# Altium integrated library CDE_Library.IntLib: 6171 symbols (part 17 of 25)
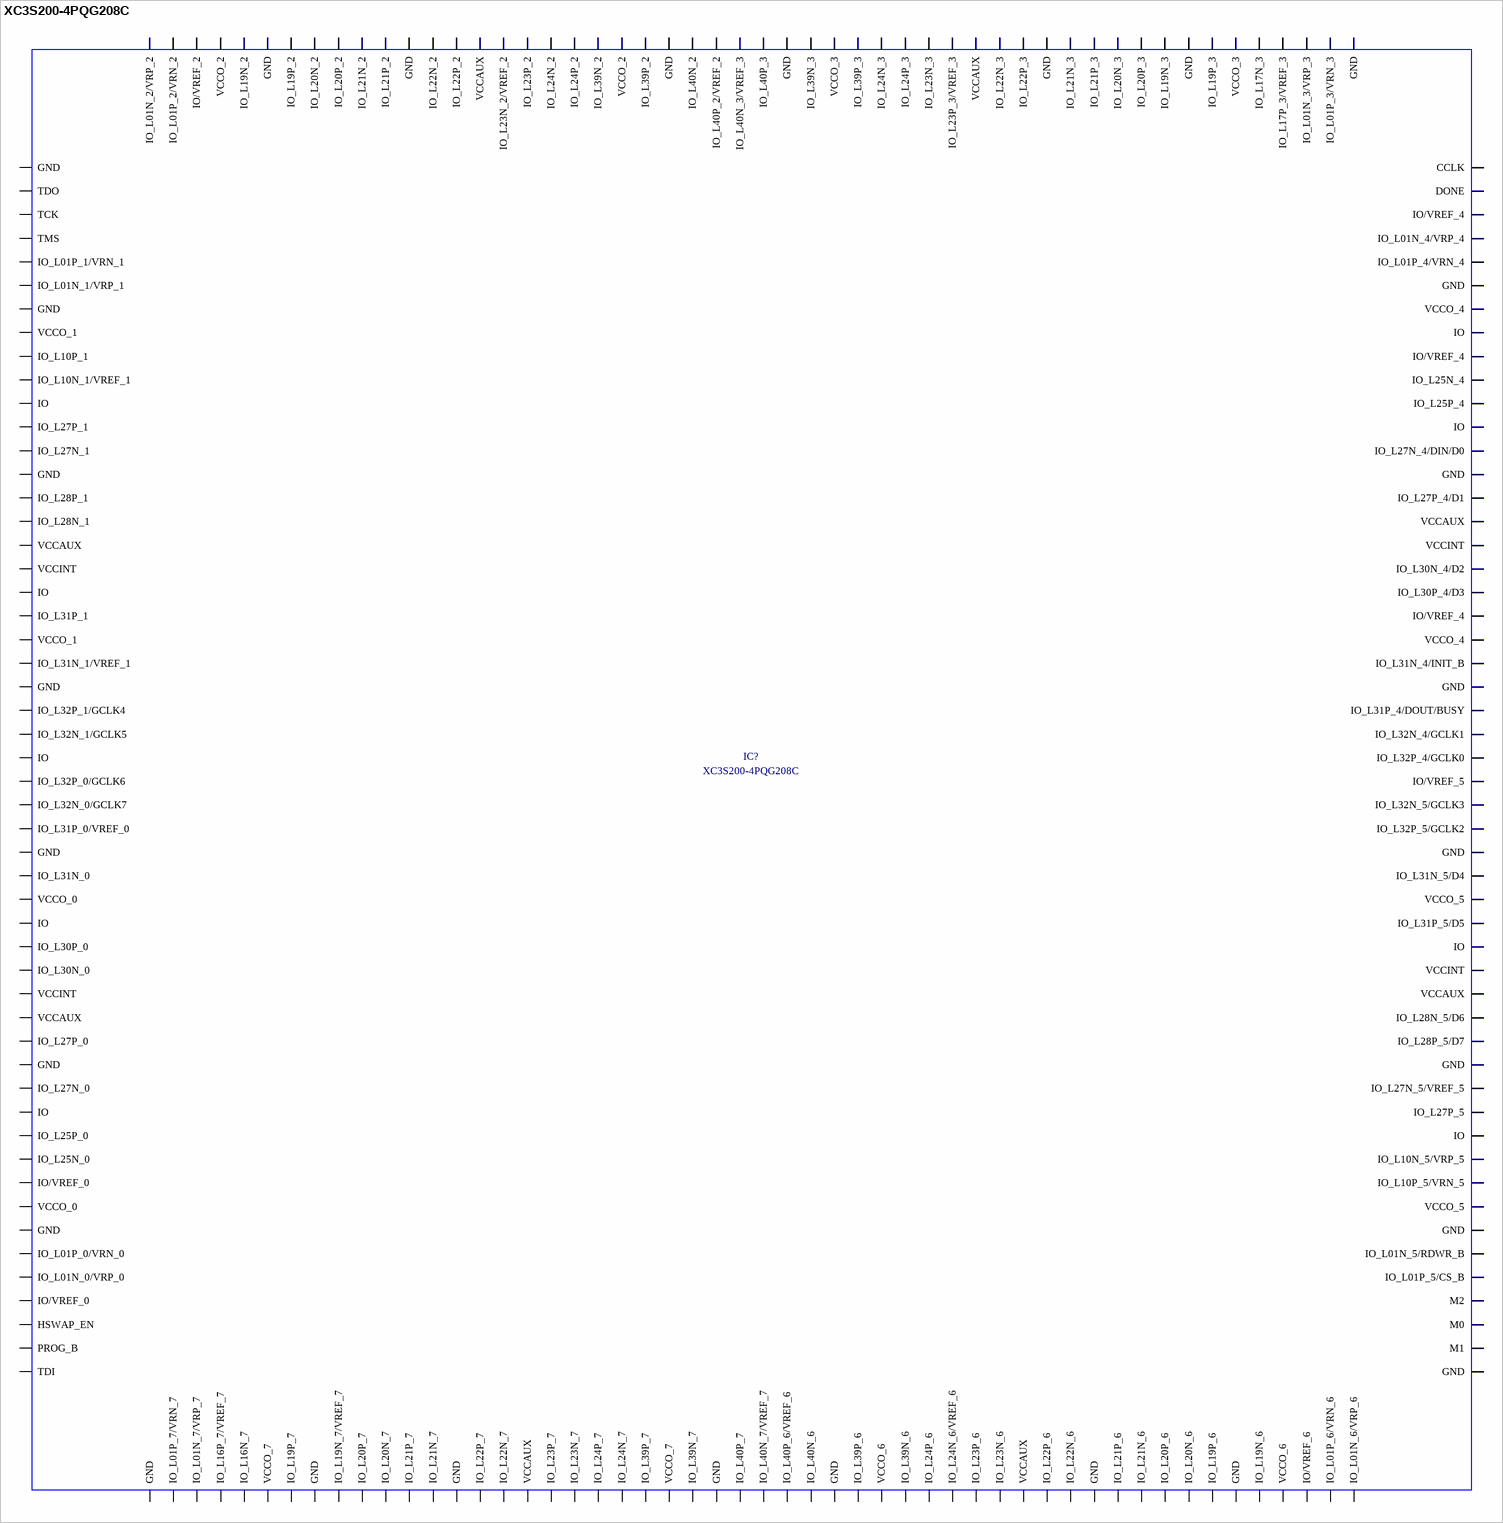
[diagram p273: symbol XC3S200-4PQG208C]

## XC3S200-4PQG208C
designator IC?
FPGA, Xilinx Spartan 3
footprint smd PQFP/208
pins: 1 GND, 2 IO_L01P_7/VRN_7, 3 IO_L01N_7/VRP_7, 4 IO_L16P_7/VREF_7, 5 IO_L16N_7, 6 VCCO_7, 7 IO_L19P_7, 8 GND, 9 IO_L19N_7/VREF_7, 10 IO_L20P_7, 11 IO_L20N_7, 12 IO_L21P_7, 13 IO_L21N_7, 14 GND, 15 IO_L22P_7, 16 IO_L22N_7, 17 VCCAUX, 18 IO_L23P_7, 19 IO_L23N_7, 20 IO_L24P_7, 21 IO_L24N_7, 22 IO_L39P_7, 23 VCCO_7, 24 IO_L39N_7, 25 GND, 26 IO_L40P_7, 27 IO_L40N_7/VREF_7, 28 IO_L40P_6/VREF_6, 29 IO_L40N_6, 30 GND, 31 IO_L39P_6, 32 VCCO_6, 33 IO_L39N_6, 34 IO_L24P_6, 35 IO_L24N_6/VREF_6, 36 IO_L23P_6, 37 IO_L23N_6, 38 VCCAUX, 39 IO_L22P_6, 40 IO_L22N_6, 41 GND, 42 IO_L21P_6, 43 IO_L21N_6, 44 IO_L20P_6, 45 IO_L20N_6, 46 IO_L19P_6, 47 GND, 48 IO_L19N_6, 49 VCCO_6, 50 IO/VREF_6, 51 IO_L01P_6/VRN_6, 52 IO_L01N_6/VRP_6, 53 GND, 54 M1, 55 M0, 56 M2, 57 IO_L01P_5/CS_B, 58 IO_L01N_5/RDWR_B, 59 GND, 60 VCCO_5, 61 IO_L10P_5/VRN_5, 62 IO_L10N_5/VRP_5, 63 IO, 64 IO_L27P_5, 65 IO_L27N_5/VREF_5, 66 GND, 67 IO_L28P_5/D7, 68 IO_L28N_5/D6, 69 VCCAUX, 70 VCCINT, 71 IO, 72 IO_L31P_5/D5, 73 VCCO_5, 74 IO_L31N_5/D4, 75 GND, 76 IO_L32P_5/GCLK2, 77 IO_L32N_5/GCLK3, 78 IO/VREF_5, 79 IO_L32P_4/GCLK0, 80 IO_L32N_4/GCLK1, 81 IO_L31P_4/DOUT/BUSY, 82 GND, 83 IO_L31N_4/INIT_B, 84 VCCO_4, 85 IO/VREF_4, 86 IO_L30P_4/D3, 87 IO_L30N_4/D2, 88 VCCINT, 89 VCCAUX, 90 IO_L27P_4/D1, 91 GND, 92 IO_L27N_4/DIN/D0, 93 IO, 94 IO_L25P_4, 95 IO_L25N_4, 96 IO/VREF_4, 97 IO, 98 VCCO_4, 99 GND, 100 IO_L01P_4/VRN_4, 101 IO_L01N_4/VRP_4, 102 IO/VREF_4, 103 DONE, 104 CCLK, 105 GND, 106 IO_L01P_3/VRN_3, 107 IO_L01N_3/VRP_3, 108 IO_L17P_3/VREF_3, 109 IO_L17N_3, 110 VCCO_3, 111 IO_L19P_3, 112 GND, 113 IO_L19N_3, 114 IO_L20P_3, 115 IO_L20N_3, 116 IO_L21P_3, 117 IO_L21N_3, 118 GND, 119 IO_L22P_3, 120 IO_L22N_3, 121 VCCAUX, 122 IO_L23P_3/VREF_3, 123 IO_L23N_3, 124 IO_L24P_3, 125 IO_L24N_3, 126 IO_L39P_3, 127 VCCO_3, 128 IO_L39N_3, 129 GND, 130 IO_L40P_3, 131 IO_L40N_3/VREF_3, 132 IO_L40P_2/VREF_2, 133 IO_L40N_2, 134 GND, 135 IO_L39P_2, 136 VCCO_2, 137 IO_L39N_2, 138 IO_L24P_2, 139 IO_L24N_2, 140 IO_L23P_2, 141 IO_L23N_2/VREF_2, 142 VCCAUX, 143 IO_L22P_2, 144 IO_L22N_2, 145 GND, 146 IO_L21P_2, 147 IO_L21N_2, 148 IO_L20P_2, 149 IO_L20N_2, 150 IO_L19P_2, 151 GND, 152 IO_L19N_2, 153 VCCO_2, 154 IO/VREF_2, 155 IO_L01P_2/VRN_2, 156 IO_L01N_2/VRP_2, 157 GND, 158 TDO, 159 TCK, 160 TMS, 161 IO_L01P_1/VRN_1, 162 IO_L01N_1/VRP_1, 163 GND, 164 VCCO_1, 165 IO_L10P_1, 166 IO_L10N_1/VREF_1, 167 IO, 168 IO_L27P_1, 169 IO_L27N_1, 170 GND, 171 IO_L28P_1, 172 IO_L28N_1, 173 VCCAUX, 174 VCCINT, 175 IO, 176 IO_L31P_1, 177 VCCO_1, 178 IO_L31N_1/VREF_1, 179 GND, 180 IO_L32P_1/GCLK4, 181 IO_L32N_1/GCLK5, 182 IO, 183 IO_L32P_0/GCLK6, 184 IO_L32N_0/GCLK7, 185 IO_L31P_0/VREF_0, 186 GND, 187 IO_L31N_0, 188 VCCO_0, 189 IO, 190 IO_L30P_0, 191 IO_L30N_0, 192 VCCINT, 193 VCCAUX, 194 IO_L27P_0, 195 GND, 196 IO_L27N_0, 197 IO, 198 IO_L25P_0, 199 IO_L25N_0, 200 IO/VREF_0, 201 VCCO_0, 202 GND, 203 IO_L01P_0/VRN_0, 204 IO_L01N_0/VRP_0, 205 IO/VREF_0, 206 HSWAP_EN, 207 PROG_B, 208 TDI

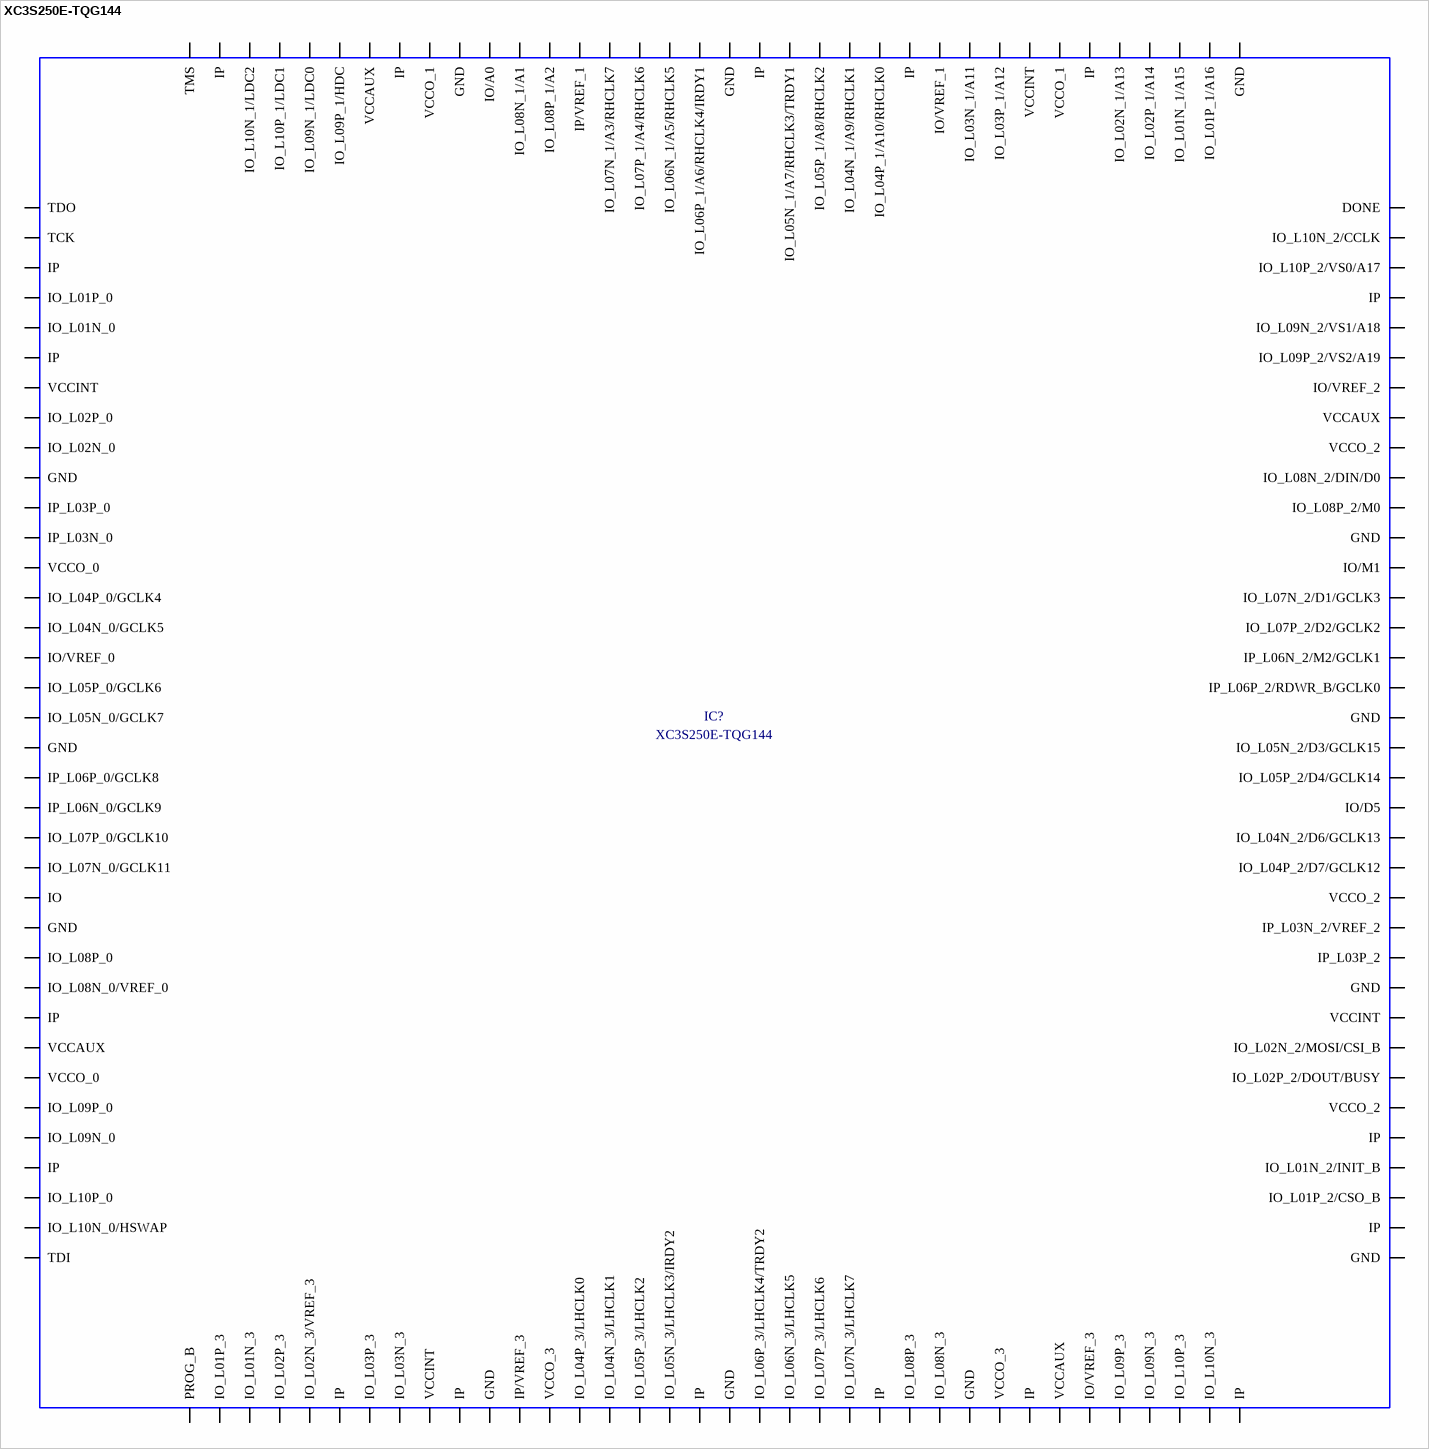
[diagram p175: symbol XC3S250E-TQG144]

## XC3S250E-TQG144
designator IC?
Xilinx FPGA
footprint smd TQFP/144
pins: 1 PROG_B, 2 IO_L01P_3, 3 IO_L01N_3, 4 IO_L02P_3, 5 IO_L02N_3/VREF_3, 6 IP, 7 IO_L03P_3, 8 IO_L03N_3, 9 VCCINT, 10 IP, 11 GND, 12 IP/VREF_3, 13 VCCO_3, 14 IO_L04P_3/LHCLK0, 15 IO_L04N_3/LHCLK1, 16 IO_L05P_3/LHCLK2, 17 IO_L05N_3/LHCLK3/IRDY2, 18 IP, 19 GND, 20 IO_L06P_3/LHCLK4/TRDY2, 21 IO_L06N_3/LHCLK5, 22 IO_L07P_3/LHCLK6, 23 IO_L07N_3/LHCLK7, 24 IP, 25 IO_L08P_3, 26 IO_L08N_3, 27 GND, 28 VCCO_3, 29 IP, 30 VCCAUX, 31 IO/VREF_3, 32 IO_L09P_3, 33 IO_L09N_3, 34 IO_L10P_3, 35 IO_L10N_3, 36 IP, 37 GND, 38 IP, 39 IO_L01P_2/CSO_B, 40 IO_L01N_2/INIT_B, 41 IP, 42 VCCO_2, 43 IO_L02P_2/DOUT/BUSY, 44 IO_L02N_2/MOSI/CSI_B, 45 VCCINT, 46 GND, 47 IP_L03P_2, 48 IP_L03N_2/VREF_2, 49 VCCO_2, 50 IO_L04P_2/D7/GCLK12, 51 IO_L04N_2/D6/GCLK13, 52 IO/D5, 53 IO_L05P_2/D4/GCLK14, 54 IO_L05N_2/D3/GCLK15, 55 GND, 56 IP_L06P_2/RDWR_B/GCLK0, 57 IP_L06N_2/M2/GCLK1, 58 IO_L07P_2/D2/GCLK2, 59 IO_L07N_2/D1/GCLK3, 60 IO/M1, 61 GND, 62 IO_L08P_2/M0, 63 IO_L08N_2/DIN/D0, 64 VCCO_2, 65 VCCAUX, 66 IO/VREF_2, 67 IO_L09P_2/VS2/A19, 68 IO_L09N_2/VS1/A18, 69 IP, 70 IO_L10P_2/VS0/A17, 71 IO_L10N_2/CCLK, 72 DONE, 73 GND, 74 IO_L01P_1/A16, 75 IO_L01N_1/A15, 76 IO_L02P_1/A14, 77 IO_L02N_1/A13, 78 IP, 79 VCCO_1, 80 VCCINT, 81 IO_L03P_1/A12, 82 IO_L03N_1/A11, 83 IO/VREF_1, 84 IP, 85 IO_L04P_1/A10/RHCLK0, 86 IO_L04N_1/A9/RHCLK1, 87 IO_L05P_1/A8/RHCLK2, 88 IO_L05N_1/A7/RHCLK3/TRDY1, 89 IP, 90 GND, 91 IO_L06P_1/A6/RHCLK4/IRDY1, 92 IO_L06N_1/A5/RHCLK5, 93 IO_L07P_1/A4/RHCLK6, 94 IO_L07N_1/A3/RHCLK7, 95 IP/VREF_1, 96 IO_L08P_1/A2, 97 IO_L08N_1/A1, 98 IO/A0, 99 GND, 100 VCCO_1, 101 IP, 102 VCCAUX, 103 IO_L09P_1/HDC, 104 IO_L09N_1/LDC0, 105 IO_L10P_1/LDC1, 106 IO_L10N_1/LDC2, 107 IP, 108 TMS, 109 TDO, 110 TCK, 111 IP, 112 IO_L01P_0, 113 IO_L01N_0, 114 IP, 115 VCCINT, 116 IO_L02P_0, 117 IO_L02N_0, 118 GND, 119 IP_L03P_0, 120 IP_L03N_0, 121 VCCO_0, 122 IO_L04P_0/GCLK4, 123 IO_L04N_0/GCLK5, 124 IO/VREF_0, 125 IO_L05P_0/GCLK6, 126 IO_L05N_0/GCLK7, 127 GND, 128 IP_L06P_0/GCLK8, 129 IP_L06N_0/GCLK9, 130 IO_L07P_0/GCLK10, 131 IO_L07N_0/GCLK11, 132 IO, 133 GND, 134 IO_L08P_0, 135 IO_L08N_0/VREF_0, 136 IP, 137 VCCAUX, 138 VCCO_0, 139 IO_L09P_0, 140 IO_L09N_0, 141 IP, 142 IO_L10P_0, 143 IO_L10N_0/HSWAP, 144 TDI

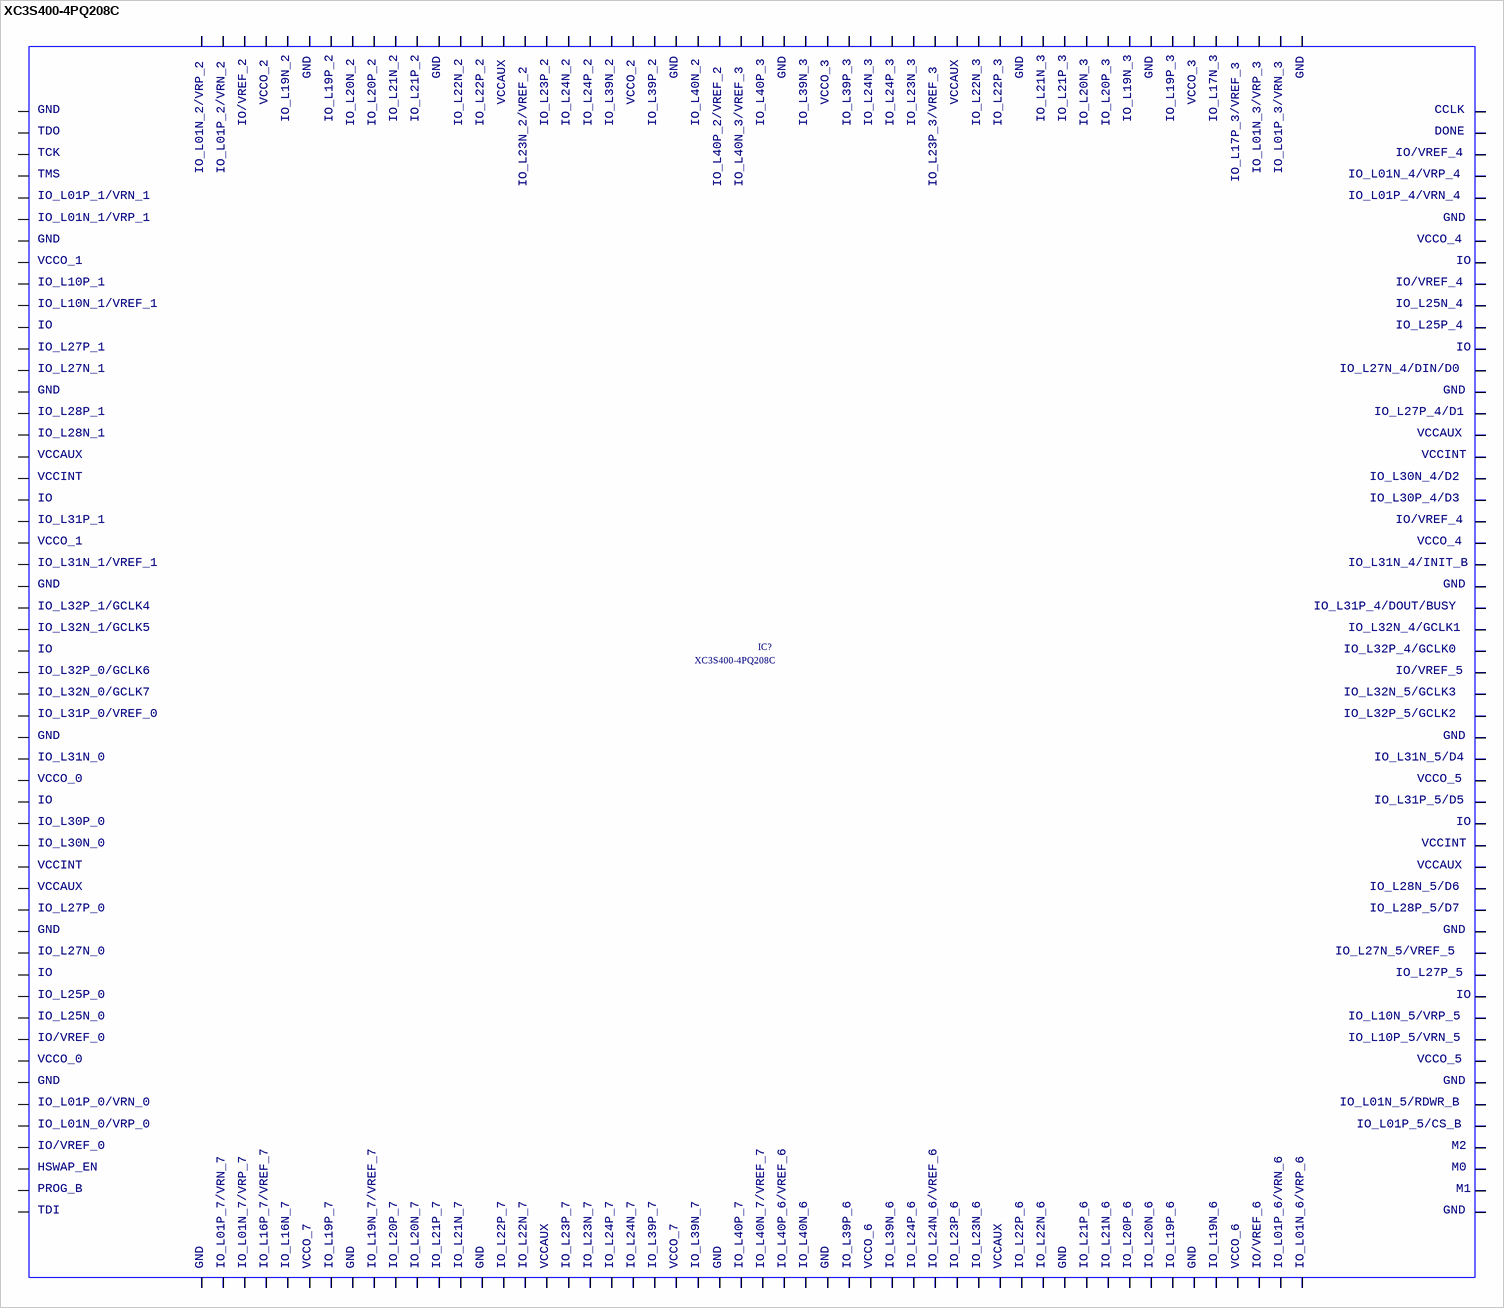
[diagram p176: symbol XC3S400-4PQ208C]

## XC3S400-4PQ208C
designator IC?
FPGA, Xilinx
footprint smd PQFP/208
pins: 1, 2, 3, 4, 5, 6, 7, 8, 9, 10, 11, 12, 13, 14, 15, 16, 17, 18, 19, 20, 21, 22, 23, 24, 25, 26, 27, 28, 29, 30, 31, 32, 33, 34, 35, 36, 37, 38, 39, 40, 41, 42, 43, 44, 45, 46, 47, 48, 49, 50, 51, 52, 53, 54, 55, 56, 57, 58, 59, 60, 61, 62, 63, 64, 65, 66, 67, 68, 69, 70, 71, 72, 73, 74, 75, 76, 77, 78, 79, 80, 81, 82, 83, 84, 85, 86, 87, 88, 89, 90, 91, 92, 93, 94, 95, 96, 97, 98, 99, 100, 101, 102, 103, 104, 105, 106, 107, 108, 109, 110, 111, 112, 113, 114, 115, 116, 117, 118, 119, 120, 121, 122, 123, 124, 125, 126, 127, 128, 129, 130, 131, 132, 133, 134, 135, 136, 137, 138, 139, 140, 141, 142, 143, 144, 145, 146, 147, 148, 149, 150, 151, 152, 153, 154, 155, 156, 157, 158, 159, 160, 161, 162, 163, 164, 165, 166, 167, 168, 169, 170, 171, 172, 173, 174, 175, 176, 177, 178, 179, 180, 181, 182, 183, 184, 185, 186, 187, 188, 189, 190, 191, 192, 193, 194, 195, 196, 197, 198, 199, 200, 201, 202, 203, 204, 205, 206, 207, 208
text: GND; VCCO_2; VCCAUX; VCCO_3; CCLK; IO_L19N_2; IO_L19P_2; IO_L21N_2; IO_L21P_2; IO_L21N_3; IO_L21P_3; IO_L19N_3; IO_L19P_3; IO_L17N_3; IO/VREF_2; IO_L20N_2; IO_L20P_2; IO_L22N_2; IO_L22P_2; IO_L23P_2; IO_L24N_2; IO_L24P_2; IO_L39N_2; IO_L39P_2; IO_L40N_2; IO_L40P_3; IO_L39N_3; IO_L39P_3; IO_L24N_3; IO_L24P_3; IO_L23N_3; IO_L22N_3; IO_L22P_3; IO_L20N_3; IO_L20P_3; TDO; DONE; TCK; IO/VREF_4; IO_L01N_2/VRP_2; IO_L01P_2/VRN_2; IO_L01N_3/VRP_3; IO_L01P_3/VRN_3; TMS; IO_L17P_3/VREF_3; IO_L01N_4/VRP_4; IO_L23N_2/VREF_2; IO_L40P_2/VREF_2; IO_L40N_3/VREF_3; IO_L23P_3/VREF_3; IO_L01P_1/VRN_1; IO_L01P_4/VRN_4; IO_L01N_1/VRP_1; VCCO_4; VCCO_1; IO; IO_L10P_1; IO_L10N_1/VREF_1; IO_L25N_4; IO_L25P_4; IO_L27P_1; IO_L27N_1; IO_L27N_4/DIN/D0; IO_L28P_1; IO_L27P_4/D1; IO_L28N_1; VCCINT; IO_L30N_4/D2; IO_L30P_4/D3; IO_L31P_1; IO_L31N_1/VREF_1; IO_L31N_4/INIT_B; IO_L32P_1/GCLK4; IO_L31P_4/DOUT/BUSY; IO_L32N_1/GCLK5; IO_L32N_4/GCLK1; IO_L32P_4/GCLK0; IO_L32P_0/GCLK6; IO/VREF_5; IO_L32N_0/GCLK7; IO_L32N_5/GCLK3; IO_L31P_0/VREF_0; IO_L32P_5/GCLK2; IO_L31N_0; IO_L31N_5/D4; VCCO_0; VCCO_5; IO_L31P_5/D5; IO_L30P_0; IO_L30N_0; IO_L28N_5/D6; IO_L27P_0; IO_L28P_5/D7; IO_L27N_0; IO_L27N_5/VREF_5; IO_L27P_5; IO_L25P_0; IO_L25N_0; IO_L10N_5/VRP_5; IO/VREF_0; IO_L10P_5/VRN_5; IO_L01P_0/VRN_0; IO_L01N_5/RDWR_B; IO_L01N_0/VRP_0; IO_L01P_5/CS_B; M2; HSWAP_EN; M0; PROG_B; M1; TDI; IO_L01P_7/VRN_7; IO_L01N_7/VRP_7; IO_L16P_7/VREF_7; IO_L16N_7; VCCO_7; IO_L19P_7; IO_L19N_7/VREF_7; IO_L20P_7; IO_L20N_7; IO_L21P_7; IO_L21N_7; IO_L22P_7; IO_L22N_7; IO_L23P_7; IO_L23N_7; IO_L24P_7; IO_L24N_7; IO_L39P_7; IO_L39N_7; IO_L40P_7; IO_L40N_7/VREF_7; IO_L40P_6/VREF_6; IO_L40N_6; IO_L39P_6; VCCO_6; IO_L39N_6; IO_L24P_6; IO_L24N_6/VREF_6; IO_L23P_6; IO_L23N_6; IO_L22P_6; IO_L22N_6; IO_L21P_6; IO_L21N_6; IO_L20P_6; IO_L20N_6; IO_L19P_6; IO_L19N_6; IO/VREF_6; IO_L01P_6/VRN_6; IO_L01N_6/VRP_6

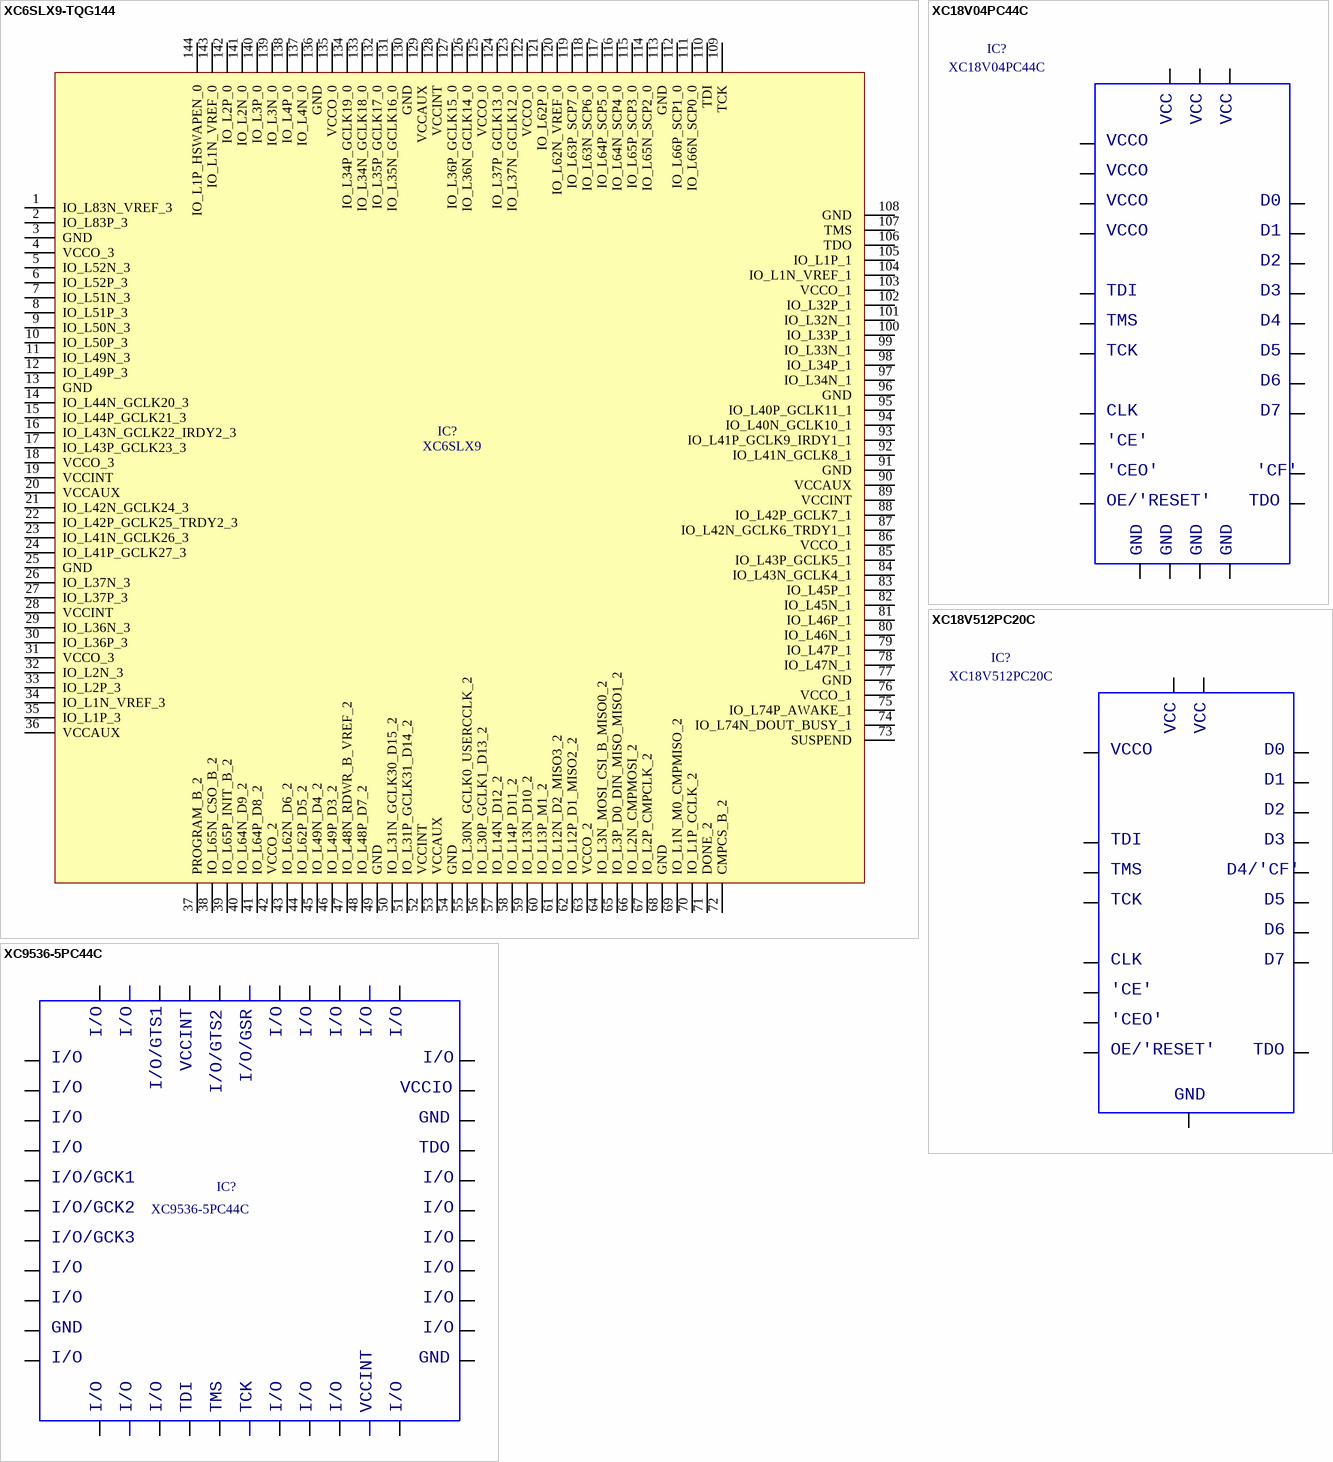
[diagram p177: symbols XC6SLX9-TQG144 to XC9536-5PC44C]

## XC6SLX9-TQG144
designator IC?, comment XC6SLX9
Spartan 6 FPGA
footprint smd TQ144_L (Thin QFP, 144-Leads, Body 20x20mm, Pitch 0.5mm, IPC High Density)
pins: 1 IO_L83N_VREF_3 , 2 IO_L83P_3 , 3 GND , 4 VCCO_3 , 5 IO_L52N_3 , 6 IO_L52P_3 , 7 IO_L51N_3 , 8 IO_L51P_3 , 9 IO_L50N_3 , 10 IO_L50P_3 , 11 IO_L49N_3 , 12 IO_L49P_3 , 13 GND , 14 IO_L44N_GCLK20_3 , 15 IO_L44P_GCLK21_3 , 16 IO_L43N_GCLK22_IRDY2_3 , 17 IO_L43P_GCLK23_3 , 18 VCCO_3 , 19 VCCINT , 20 VCCAUX , 21 IO_L42N_GCLK24_3 , 22 IO_L42P_GCLK25_TRDY2_3 , 23 IO_L41N_GCLK26_3 , 24 IO_L41P_GCLK27_3 , 25 GND , 26 IO_L37N_3 , 27 IO_L37P_3 , 28 VCCINT , 29 IO_L36N_3 , 30 IO_L36P_3 , 31 VCCO_3 , 32 IO_L2N_3 , 33 IO_L2P_3 , 34 IO_L1N_VREF_3 , 35 IO_L1P_3 , 36 VCCAUX , 37 PROGRAM_B_2 , 38 IO_L65N_CSO_B_2 , 39 IO_L65P_INIT_B_2 , 40 IO_L64N_D9_2 , 41 IO_L64P_D8_2 , 42 VCCO_2 , 43 IO_L62N_D6_2 , 44 IO_L62P_D5_2 , 45 IO_L49N_D4_2 , 46 IO_L49P_D3_2 , 47 IO_L48N_RDWR_B_VREF_2 , 48 IO_L48P_D7_2 , 49 GND , 50 IO_L31N_GCLK30_D15_2 , 51 IO_L31P_GCLK31_D14_2 , 52 VCCINT , 53 VCCAUX , 54 GND , 55 IO_L30N_GCLK0_USERCCLK_2 , 56 IO_L30P_GCLK1_D13_2 , 57 IO_L14N_D12_2 , 58 IO_L14P_D11_2 , 59 IO_L13N_D10_2 , 60 IO_L13P_M1_2 , 61 IO_L12N_D2_MISO3_2 , 62 IO_L12P_D1_MISO2_2 , 63 VCCO_2 , 64 IO_L3N_MOSI_CSI_B_MISO0_2 , 65 IO_L3P_D0_DIN_MISO_MISO1_2 , 66 IO_L2N_CMPMOSI_2 , 67 IO_L2P_CMPCLK_2 , 68 GND , 69 IO_L1N_M0_CMPMISO_2 , 70 IO_L1P_CCLK_2 , 71 DONE_2 , 72 CMPCS_B_2 , 73 SUSPEND , 74 IO_L74N_DOUT_BUSY_1 , 75 IO_L74P_AWAKE_1 , 76 VCCO_1 , 77 GND , 78 IO_L47N_1 , 79 IO_L47P_1 , 80 IO_L46N_1 , 81 IO_L46P_1 , 82 IO_L45N_1 , 83 IO_L45P_1 , 84 IO_L43N_GCLK4_1 , 85 IO_L43P_GCLK5_1 , 86 VCCO_1 , 87 IO_L42N_GCLK6_TRDY1_1 , 88 IO_L42P_GCLK7_1 , 89 VCCINT , 90 VCCAUX , 91 GND , 92 IO_L41N_GCLK8_1 , 93 IO_L41P_GCLK9_IRDY1_1 , 94 IO_L40N_GCLK10_1 , 95 IO_L40P_GCLK11_1 , 96 GND , 97 IO_L34N_1 , 98 IO_L34P_1 , 99 IO_L33N_1 , 100 IO_L33P_1 , 101 IO_L32N_1 , 102 IO_L32P_1 , 103 VCCO_1 , 104 IO_L1N_VREF_1 , 105 IO_L1P_1 , 106 TDO , 107 TMS , 108 GND , 109 TCK , 110 TDI , 111 IO_L66N_SCP0_0 , 112 IO_L66P_SCP1_0 , 113 GND , 114 IO_L65N_SCP2_0 , 115 IO_L65P_SCP3_0 , 116 IO_L64N_SCP4_0 , 117 IO_L64P_SCP5_0 , 118 IO_L63N_SCP6_0 , 119 IO_L63P_SCP7_0 , 120 IO_L62N_VREF_0 , 121 IO_L62P_0 , 122 VCCO_0 , 123 IO_L37N_GCLK12_0 , 124 IO_L37P_GCLK13_0 , 125 VCCO_0 , 126 IO_L36N_GCLK14_0 , 127 IO_L36P_GCLK15_0 , 128 VCCINT , 129 VCCAUX , 130 GND , 131 IO_L35N_GCLK16_0 , 132 IO_L35P_GCLK17_0 , 133 IO_L34N_GCLK18_0 , 134 IO_L34P_GCLK19_0 , 135 VCCO_0 , 136 GND , 137 IO_L4N_0 , 138 IO_L4P_0 , 139 IO_L3N_0 , 140 IO_L3P_0 , 141 IO_L2N_0 , 142 IO_L2P_0 , 143 IO_L1N_VREF_0 , 144 IO_L1P_HSWAPEN_0 

## XC18V04PC44C
designator IC?
PROM, programmeerbare configuratie
footprint icv PLCC/.1/44
pins: 2, 3, 4, 5, 9, 11, 12, 13, 14, 15, 16, 19, 20, 21, 22, 23, 24, 25, 27, 31, 32, 33, 34, 35, 37, 41, 42, 44
text: VCC; VCCO; D0; D1; D2; TDI; D3; TMS; D4; TCK; D5; D6; CLK; D7; 'CE'; 'CEO'; 'CF'; OE/'RESET'; TDO; GND

## XC18V512PC20C
designator IC?
PROM, programmeerbare configuratie
footprint icv PLCC/.1/20
pins: 1, 2, 3, 4, 5, 6, 7, 8, 9, 10, 11, 12, 13, 14, 15, 16, 17, 18, 19, 20
text: VCC; VCCO; D0; D1; D2; TDI; D3; TMS; D4/'CF'; TCK; D5; D6; CLK; D7; 'CE'; 'CEO'; OE/'RESET'; TDO; GND

## XC9536-5PC44C
designator IC?
in-system programmable CPLD; Part Number: XC9536-5PC44C; Component Kind: Standard; Component Type: Standard; Designator: XC9536-5PC44C; Footprint: icv PLCC/.1/44; Library Reference: XC9536-5PC44C; Pin Count: 44
footprint icv PLCC/.1/44
pins: 1, 2, 3, 4, 5, 6, 7, 8, 9, 10, 11, 12, 13, 14, 15, 16, 17, 18, 19, 20, 21, 22, 23, 24, 25, 26, 27, 28, 29, 30, 31, 32, 33, 34, 35, 36, 37, 38, 39, 40, 41, 42, 43, 44
text: I/O; VCCINT; I/O/GSR; I/O/GTS1; I/O/GTS2; VCCIO; GND; TDO; I/O/GCK1; I/O/GCK2; I/O/GCK3; TDI; TMS; TCK

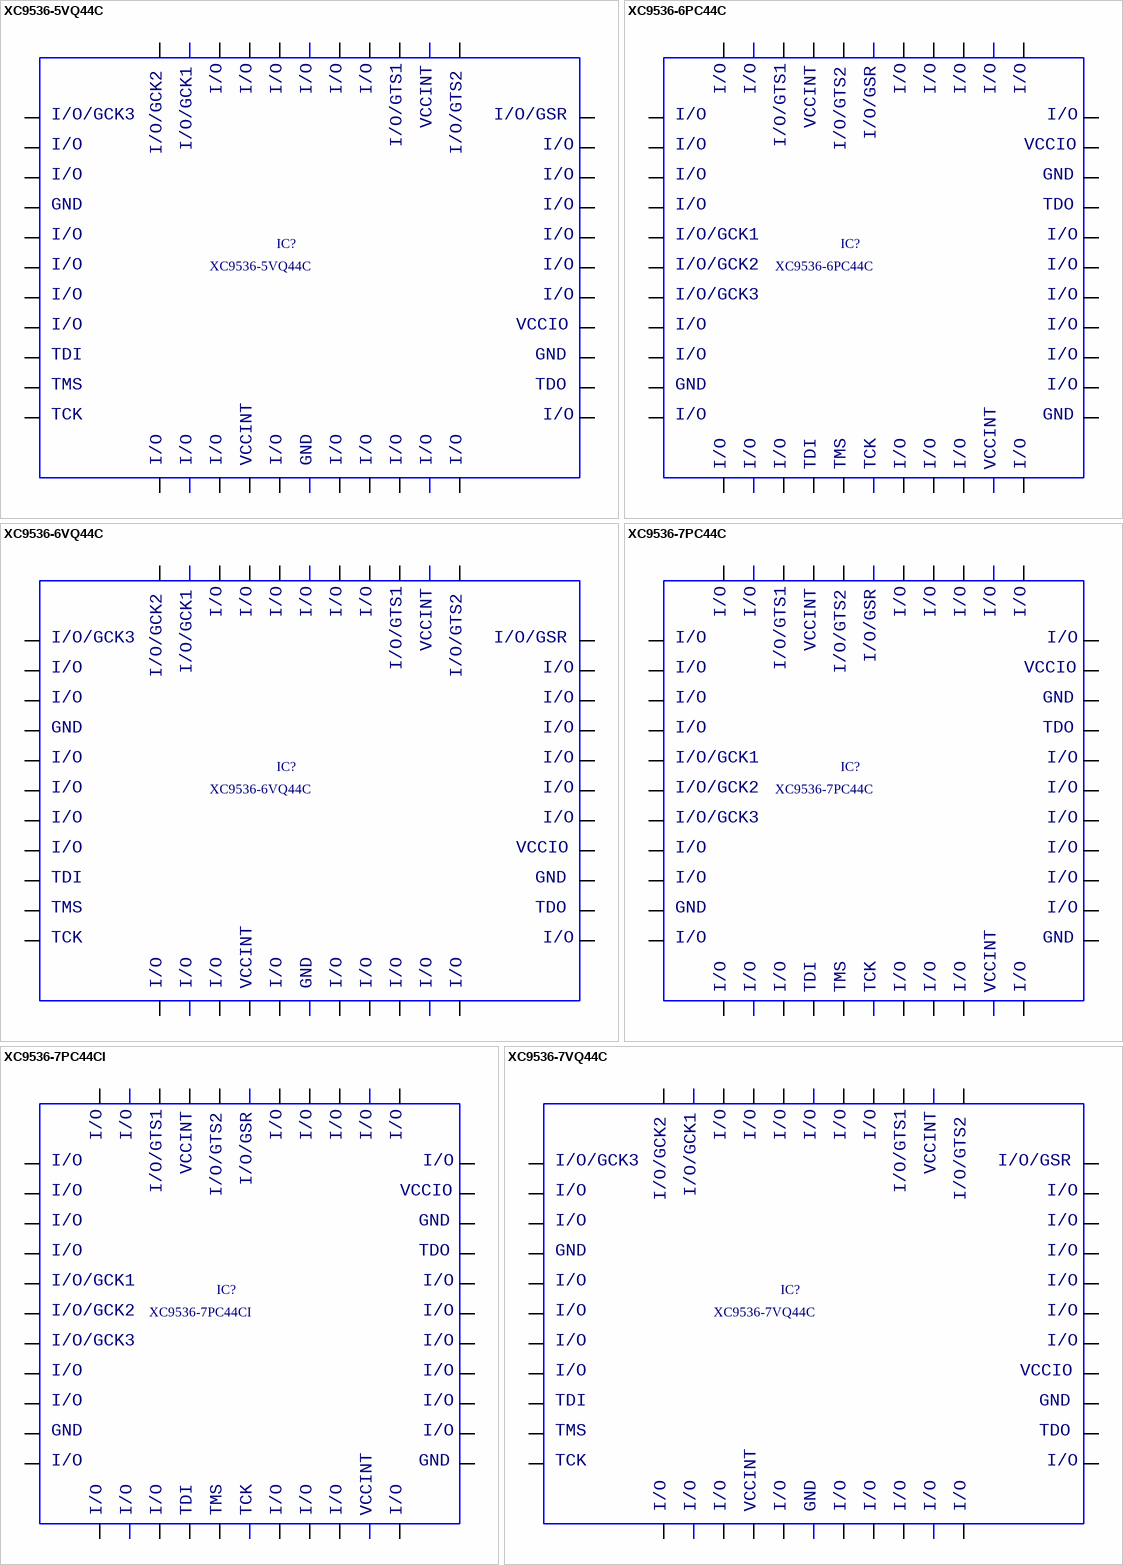
[diagram p178: symbols XC9536-5VQ44C to XC9536-7VQ44C]

## XC9536-5VQ44C
designator IC?
in-system programmable CPLD; Part Number: XC9536-5VQ44C; Component Kind: Standard; Component Type: Standard; Designator: XC9536-5VQ44C; Footprint: smd TQFP/44; Library Reference: XC9536-5VQ44C; Pin Count: 44
footprint smd TQFP/44
pins: 1, 2, 3, 4, 5, 6, 7, 8, 9, 10, 11, 12, 13, 14, 15, 16, 17, 18, 19, 20, 21, 22, 23, 24, 25, 26, 27, 28, 29, 30, 31, 32, 33, 34, 35, 36, 37, 38, 39, 40, 41, 42, 43, 44
text: I/O; I/O/GCK3; I/O/GSR; VCCINT; I/O/GCK1; I/O/GTS1; I/O/GCK2; I/O/GTS2; GND; VCCIO; TDI; TMS; TDO; TCK

## XC9536-6PC44C
designator IC?
in-system programmable CPLD; Part Number: XC9536-6PC44C; Component Kind: Standard; Component Type: Standard; Designator: XC9536-6PC44C; Footprint: icv PLCC/.1/44; Library Reference: XC9536-6PC44C; Pin Count: 44
footprint icv PLCC/.1/44
pins: 1, 2, 3, 4, 5, 6, 7, 8, 9, 10, 11, 12, 13, 14, 15, 16, 17, 18, 19, 20, 21, 22, 23, 24, 25, 26, 27, 28, 29, 30, 31, 32, 33, 34, 35, 36, 37, 38, 39, 40, 41, 42, 43, 44
text: I/O; VCCINT; I/O/GSR; I/O/GTS1; I/O/GTS2; VCCIO; GND; TDO; I/O/GCK1; I/O/GCK2; I/O/GCK3; TDI; TMS; TCK

## XC9536-6VQ44C
designator IC?
in-system programmable CPLD; Part Number: XC9536-6VQ44C; Component Kind: Standard; Component Type: Standard; Designator: XC9536-6VQ44C; Footprint: smd TQFP/44; Library Reference: XC9536-6VQ44C; Pin Count: 44
footprint smd TQFP/44
pins: 1, 2, 3, 4, 5, 6, 7, 8, 9, 10, 11, 12, 13, 14, 15, 16, 17, 18, 19, 20, 21, 22, 23, 24, 25, 26, 27, 28, 29, 30, 31, 32, 33, 34, 35, 36, 37, 38, 39, 40, 41, 42, 43, 44
text: I/O; I/O/GCK3; I/O/GSR; VCCINT; I/O/GCK1; I/O/GTS1; I/O/GCK2; I/O/GTS2; GND; VCCIO; TDI; TMS; TDO; TCK

## XC9536-7PC44C
designator IC?
in-system programmable CPLD; Part Number: XC9536-7PC44C; Component Kind: Standard; Component Type: Standard; Designator: XC9536-7PC44C; Footprint: icv PLCC/.1/44; Library Reference: XC9536-7PC44C; Pin Count: 44
footprint icv PLCC/.1/44
pins: 1, 2, 3, 4, 5, 6, 7, 8, 9, 10, 11, 12, 13, 14, 15, 16, 17, 18, 19, 20, 21, 22, 23, 24, 25, 26, 27, 28, 29, 30, 31, 32, 33, 34, 35, 36, 37, 38, 39, 40, 41, 42, 43, 44
text: I/O; VCCINT; I/O/GSR; I/O/GTS1; I/O/GTS2; VCCIO; GND; TDO; I/O/GCK1; I/O/GCK2; I/O/GCK3; TDI; TMS; TCK

## XC9536-7PC44CI
designator IC?
in-system programmable CPLD; Part Number: XC9536-7PC44CI; Component Kind: Standard; Component Type: Standard; Designator: XC9536-7PC44CI; Footprint: icv PLCC/.1/44; Library Reference: XC9536-7PC44CI; Pin Count: 44
footprint icv PLCC/.1/44
pins: 1, 2, 3, 4, 5, 6, 7, 8, 9, 10, 11, 12, 13, 14, 15, 16, 17, 18, 19, 20, 21, 22, 23, 24, 25, 26, 27, 28, 29, 30, 31, 32, 33, 34, 35, 36, 37, 38, 39, 40, 41, 42, 43, 44
text: I/O; VCCINT; I/O/GSR; I/O/GTS1; I/O/GTS2; VCCIO; GND; TDO; I/O/GCK1; I/O/GCK2; I/O/GCK3; TDI; TMS; TCK

## XC9536-7VQ44C
designator IC?
in-system programmable CPLD; Part Number: XC9536-7VQ44C; Component Kind: Standard; Component Type: Standard; Designator: XC9536-7VQ44C; Footprint: smd TQFP/44; Library Reference: XC9536-7VQ44C; Pin Count: 44
footprint smd TQFP/44
pins: 1, 2, 3, 4, 5, 6, 7, 8, 9, 10, 11, 12, 13, 14, 15, 16, 17, 18, 19, 20, 21, 22, 23, 24, 25, 26, 27, 28, 29, 30, 31, 32, 33, 34, 35, 36, 37, 38, 39, 40, 41, 42, 43, 44
text: I/O; I/O/GCK3; I/O/GSR; VCCINT; I/O/GCK1; I/O/GTS1; I/O/GCK2; I/O/GTS2; GND; VCCIO; TDI; TMS; TDO; TCK

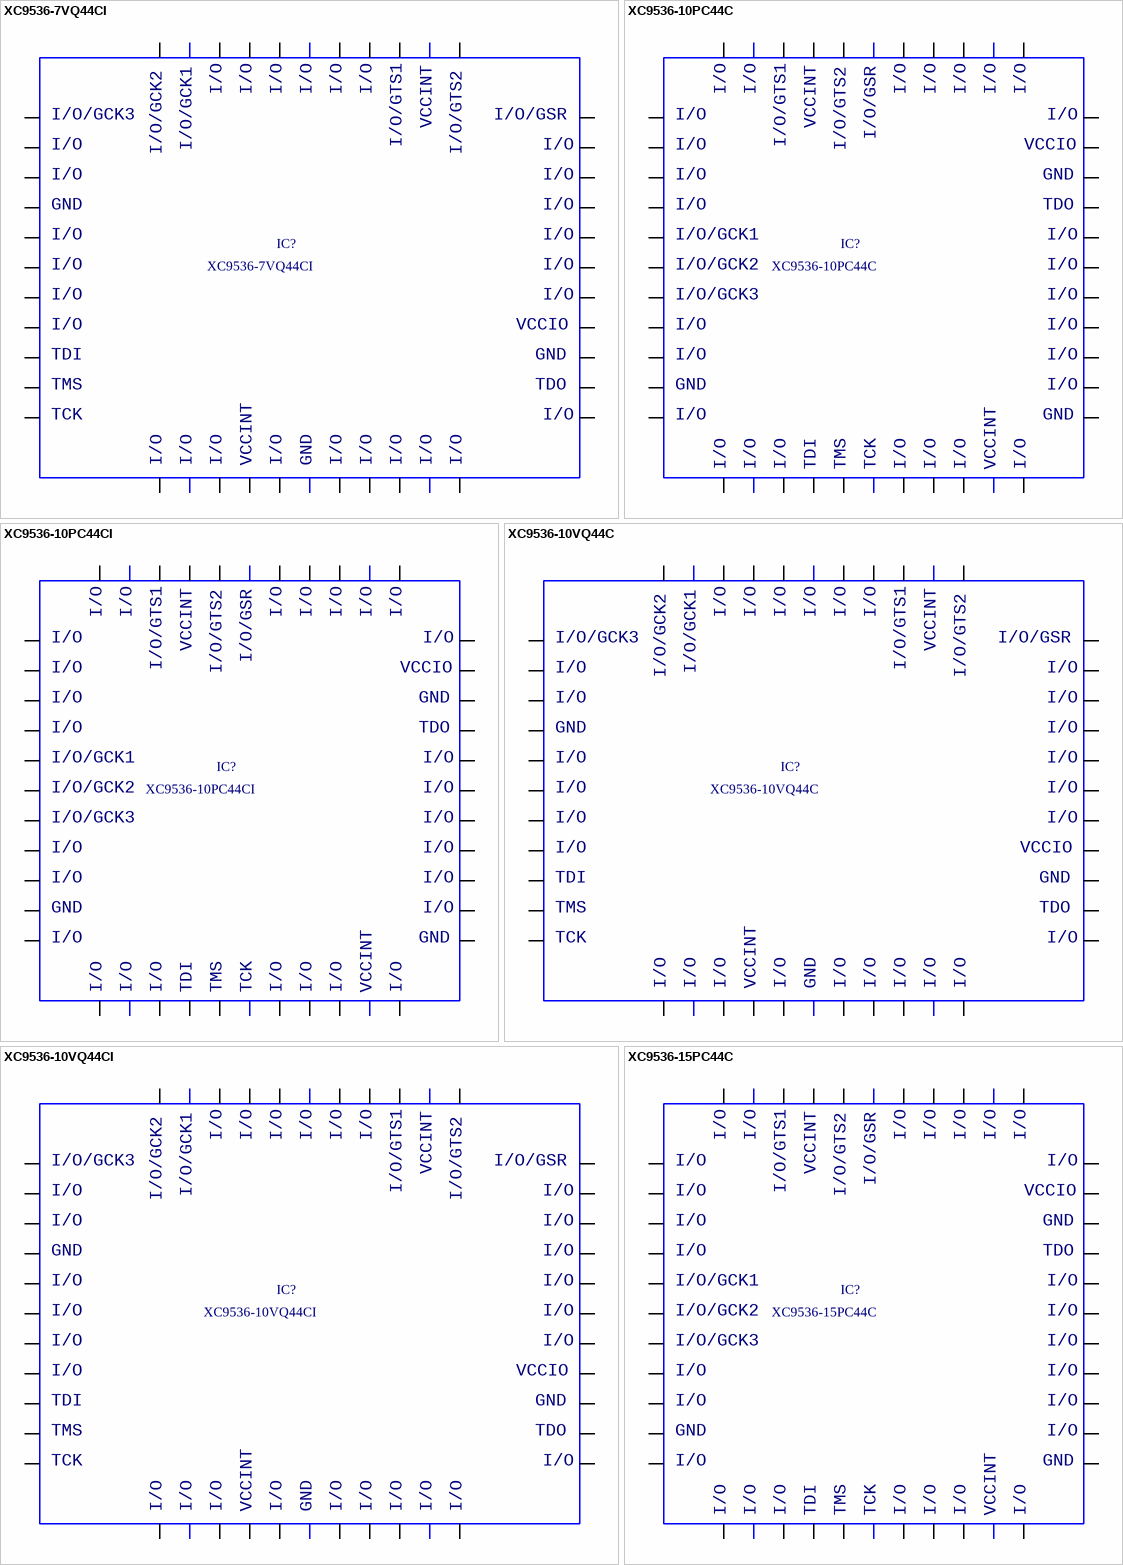
[diagram p179: symbols XC9536-7VQ44CI to XC9536-15PC44C]

## XC9536-7VQ44CI
designator IC?
in-system programmable CPLD; Part Number: XC9536-7VQ44CI; Component Kind: Standard; Component Type: Standard; Designator: XC9536-7VQ44CI; Footprint: smd TQFP/44; Library Reference: XC9536-7VQ44CI; Pin Count: 44
footprint smd TQFP/44
pins: 1, 2, 3, 4, 5, 6, 7, 8, 9, 10, 11, 12, 13, 14, 15, 16, 17, 18, 19, 20, 21, 22, 23, 24, 25, 26, 27, 28, 29, 30, 31, 32, 33, 34, 35, 36, 37, 38, 39, 40, 41, 42, 43, 44
text: I/O; I/O/GCK3; I/O/GSR; VCCINT; I/O/GCK1; I/O/GTS1; I/O/GCK2; I/O/GTS2; GND; VCCIO; TDI; TMS; TDO; TCK

## XC9536-10PC44C
designator IC?
in-system programmable CPLD; Part Number: XC9536-10PC44C; Component Kind: Standard; Component Type: Standard; Designator: XC9536-10PC44C; Footprint: icv PLCC/.1/44; Library Reference: XC9536-10PC44C; Pin Count: 44
footprint icv PLCC/.1/44
pins: 1, 2, 3, 4, 5, 6, 7, 8, 9, 10, 11, 12, 13, 14, 15, 16, 17, 18, 19, 20, 21, 22, 23, 24, 25, 26, 27, 28, 29, 30, 31, 32, 33, 34, 35, 36, 37, 38, 39, 40, 41, 42, 43, 44
text: I/O; VCCINT; I/O/GSR; I/O/GTS1; I/O/GTS2; VCCIO; GND; TDO; I/O/GCK1; I/O/GCK2; I/O/GCK3; TDI; TMS; TCK

## XC9536-10PC44CI
designator IC?
in-system programmable CPLD; Part Number: XC9536-10PC44CI; Component Kind: Standard; Component Type: Standard; Designator: XC9536-10PC44CI; Footprint: icv PLCC/.1/44; Library Reference: XC9536-10PC44CI; Pin Count: 44
footprint icv PLCC/.1/44
pins: 1, 2, 3, 4, 5, 6, 7, 8, 9, 10, 11, 12, 13, 14, 15, 16, 17, 18, 19, 20, 21, 22, 23, 24, 25, 26, 27, 28, 29, 30, 31, 32, 33, 34, 35, 36, 37, 38, 39, 40, 41, 42, 43, 44
text: I/O; VCCINT; I/O/GSR; I/O/GTS1; I/O/GTS2; VCCIO; GND; TDO; I/O/GCK1; I/O/GCK2; I/O/GCK3; TDI; TMS; TCK

## XC9536-10VQ44C
designator IC?
in-system programmable CPLD; Part Number: XC9536-10VQ44C; Component Kind: Standard; Component Type: Standard; Designator: XC9536-10VQ44C; Footprint: smd TQFP/44; Library Reference: XC9536-10VQ44C; Pin Count: 44
footprint smd TQFP/44
pins: 1, 2, 3, 4, 5, 6, 7, 8, 9, 10, 11, 12, 13, 14, 15, 16, 17, 18, 19, 20, 21, 22, 23, 24, 25, 26, 27, 28, 29, 30, 31, 32, 33, 34, 35, 36, 37, 38, 39, 40, 41, 42, 43, 44
text: I/O; I/O/GCK3; I/O/GSR; VCCINT; I/O/GCK1; I/O/GTS1; I/O/GCK2; I/O/GTS2; GND; VCCIO; TDI; TMS; TDO; TCK

## XC9536-10VQ44CI
designator IC?
in-system programmable CPLD; Part Number: XC9536-10VQ44CI; Component Kind: Standard; Component Type: Standard; Designator: XC9536-10VQ44CI; Footprint: smd TQFP/44; Library Reference: XC9536-10VQ44CI; Pin Count: 44
footprint smd TQFP/44
pins: 1, 2, 3, 4, 5, 6, 7, 8, 9, 10, 11, 12, 13, 14, 15, 16, 17, 18, 19, 20, 21, 22, 23, 24, 25, 26, 27, 28, 29, 30, 31, 32, 33, 34, 35, 36, 37, 38, 39, 40, 41, 42, 43, 44
text: I/O; I/O/GCK3; I/O/GSR; VCCINT; I/O/GCK1; I/O/GTS1; I/O/GCK2; I/O/GTS2; GND; VCCIO; TDI; TMS; TDO; TCK

## XC9536-15PC44C
designator IC?
in-system programmable CPLD
footprint icv PLCC/.1/44
pins: 1, 2, 3, 4, 5, 6, 7, 8, 9, 10, 11, 12, 13, 14, 15, 16, 17, 18, 19, 20, 21, 22, 23, 24, 25, 26, 27, 28, 29, 30, 31, 32, 33, 34, 35, 36, 37, 38, 39, 40, 41, 42, 43, 44
text: I/O; VCCINT; I/O/GSR; I/O/GTS1; I/O/GTS2; VCCIO; GND; TDO; I/O/GCK1; I/O/GCK2; I/O/GCK3; TDI; TMS; TCK

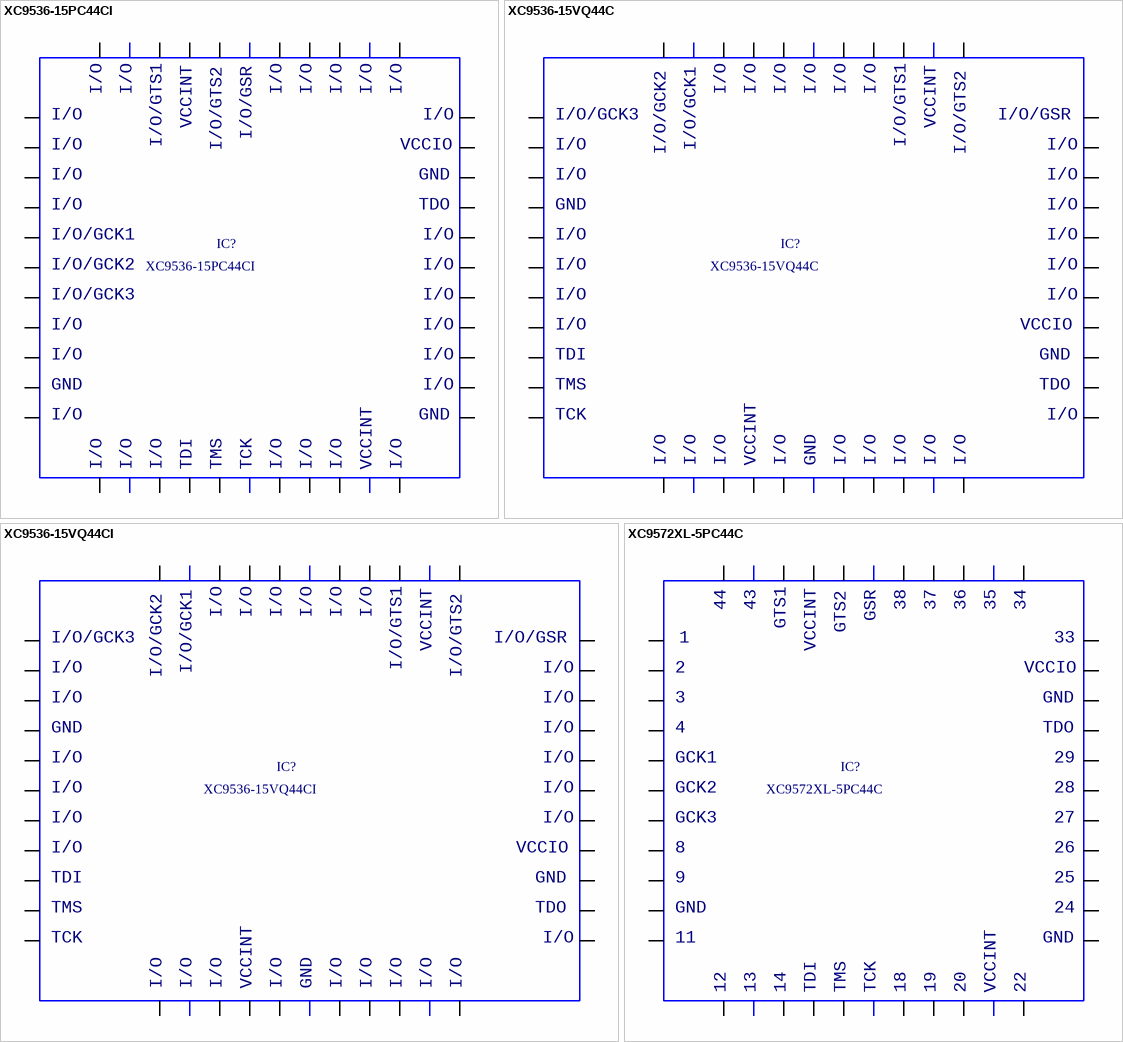
[diagram p180: symbols XC9536-15PC44CI to XC9572XL-5PC44C]

## XC9536-15PC44CI
designator IC?
in-system programmable CPLD; Part Number: XC9536-15PC44CI; Component Kind: Standard; Component Type: Standard; Designator: XC9536-15PC44CI; Footprint: icv PLCC/.1/44; Library Reference: XC9536-15PC44CI; Pin Count: 44
footprint icv PLCC/.1/44
pins: 1, 2, 3, 4, 5, 6, 7, 8, 9, 10, 11, 12, 13, 14, 15, 16, 17, 18, 19, 20, 21, 22, 23, 24, 25, 26, 27, 28, 29, 30, 31, 32, 33, 34, 35, 36, 37, 38, 39, 40, 41, 42, 43, 44
text: I/O; VCCINT; I/O/GSR; I/O/GTS1; I/O/GTS2; VCCIO; GND; TDO; I/O/GCK1; I/O/GCK2; I/O/GCK3; TDI; TMS; TCK

## XC9536-15VQ44C
designator IC?
in-system programmable CPLD
footprint smd TQFP/44
pins: 1, 2, 3, 4, 5, 6, 7, 8, 9, 10, 11, 12, 13, 14, 15, 16, 17, 18, 19, 20, 21, 22, 23, 24, 25, 26, 27, 28, 29, 30, 31, 32, 33, 34, 35, 36, 37, 38, 39, 40, 41, 42, 43, 44
text: I/O; I/O/GCK3; I/O/GSR; VCCINT; I/O/GCK1; I/O/GTS1; I/O/GCK2; I/O/GTS2; GND; VCCIO; TDI; TMS; TDO; TCK

## XC9536-15VQ44CI
designator IC?
in-system programmable CPLD; Part Number: XC9536-15VQ44CI; Component Kind: Standard; Component Type: Standard; Designator: XC9536-15VQ44CI; Footprint: smd TQFP/44; Library Reference: XC9536-15VQ44CI; Pin Count: 44
footprint smd TQFP/44
pins: 1, 2, 3, 4, 5, 6, 7, 8, 9, 10, 11, 12, 13, 14, 15, 16, 17, 18, 19, 20, 21, 22, 23, 24, 25, 26, 27, 28, 29, 30, 31, 32, 33, 34, 35, 36, 37, 38, 39, 40, 41, 42, 43, 44
text: I/O; I/O/GCK3; I/O/GSR; VCCINT; I/O/GCK1; I/O/GTS1; I/O/GCK2; I/O/GTS2; GND; VCCIO; TDI; TMS; TDO; TCK

## XC9572XL-5PC44C
designator IC?
CPLD
footprint icv PLCC/.1/44
pins: 1, 2, 3, 4, 5, 6, 7, 8, 9, 10, 11, 12, 13, 14, 15, 16, 17, 18, 19, 20, 21, 22, 23, 24, 25, 26, 27, 28, 29, 30, 31, 32, 33, 34, 35, 36, 37, 38, 39, 40, 41, 42, 43, 44
text: GTS1; GSR; GTS2; VCCINT; VCCIO; GND; TDO; GCK1; GCK2; GCK3; TDI; TMS; TCK

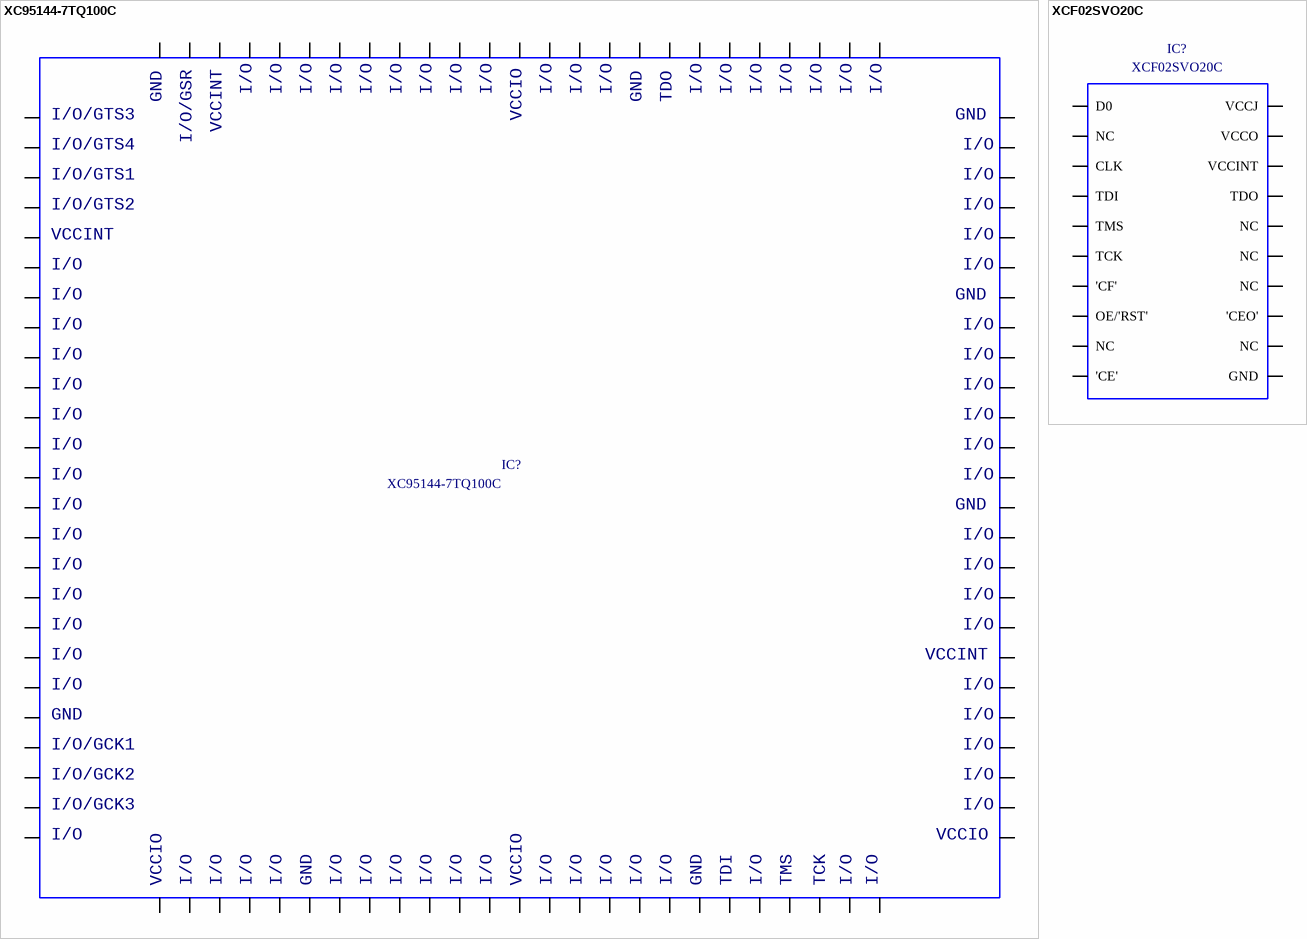
[diagram p181: symbols XC95144-7TQ100C to XCF02SVO20C]

## XC95144-7TQ100C
designator IC?
in-system programmable CPLD
footprint smd TQFP/100
pins: 1, 2, 3, 4, 5, 6, 7, 8, 9, 10, 11, 12, 13, 14, 15, 16, 17, 18, 19, 20, 21, 22, 23, 24, 25, 26, 27, 28, 29, 30, 31, 32, 33, 34, 35, 36, 37, 38, 39, 40, 41, 42, 43, 44, 45, 46, 47, 48, 49, 50, 51, 52, 53, 54, 55, 56, 57, 58, 59, 60, 61, 62, 63, 64, 65, 66, 67, 68, 69, 70, 71, 72, 73, 74, 75, 76, 77, 78, 79, 80, 81, 82, 83, 84, 85, 86, 87, 88, 89, 90, 91, 92, 93, 94, 95, 96, 97, 98, 99, 100
text: I/O; GND; TDO; VCCIO; I/O/GTS3; VCCINT; I/O/GSR; I/O/GTS4; I/O/GTS1; I/O/GTS2; I/O/GCK1; I/O/GCK2; I/O/GCK3; TDI; TMS; TCK

## XCF02SVO20C
designator IC?
prom
footprint smd TSSOP/20 (body 4.4 pitch 0.65)
pins: 1 D0, 2 NC, 3 CLK, 4 TDI, 5 TMS, 6 TCK, 7 'CF', 8 OE/'RST', 9 NC, 10 'CE', 11 GND, 12 NC, 13 'CEO', 14 NC, 15 NC, 16 NC, 17 TDO, 18 VCCINT, 19 VCCO, 20 VCCJ

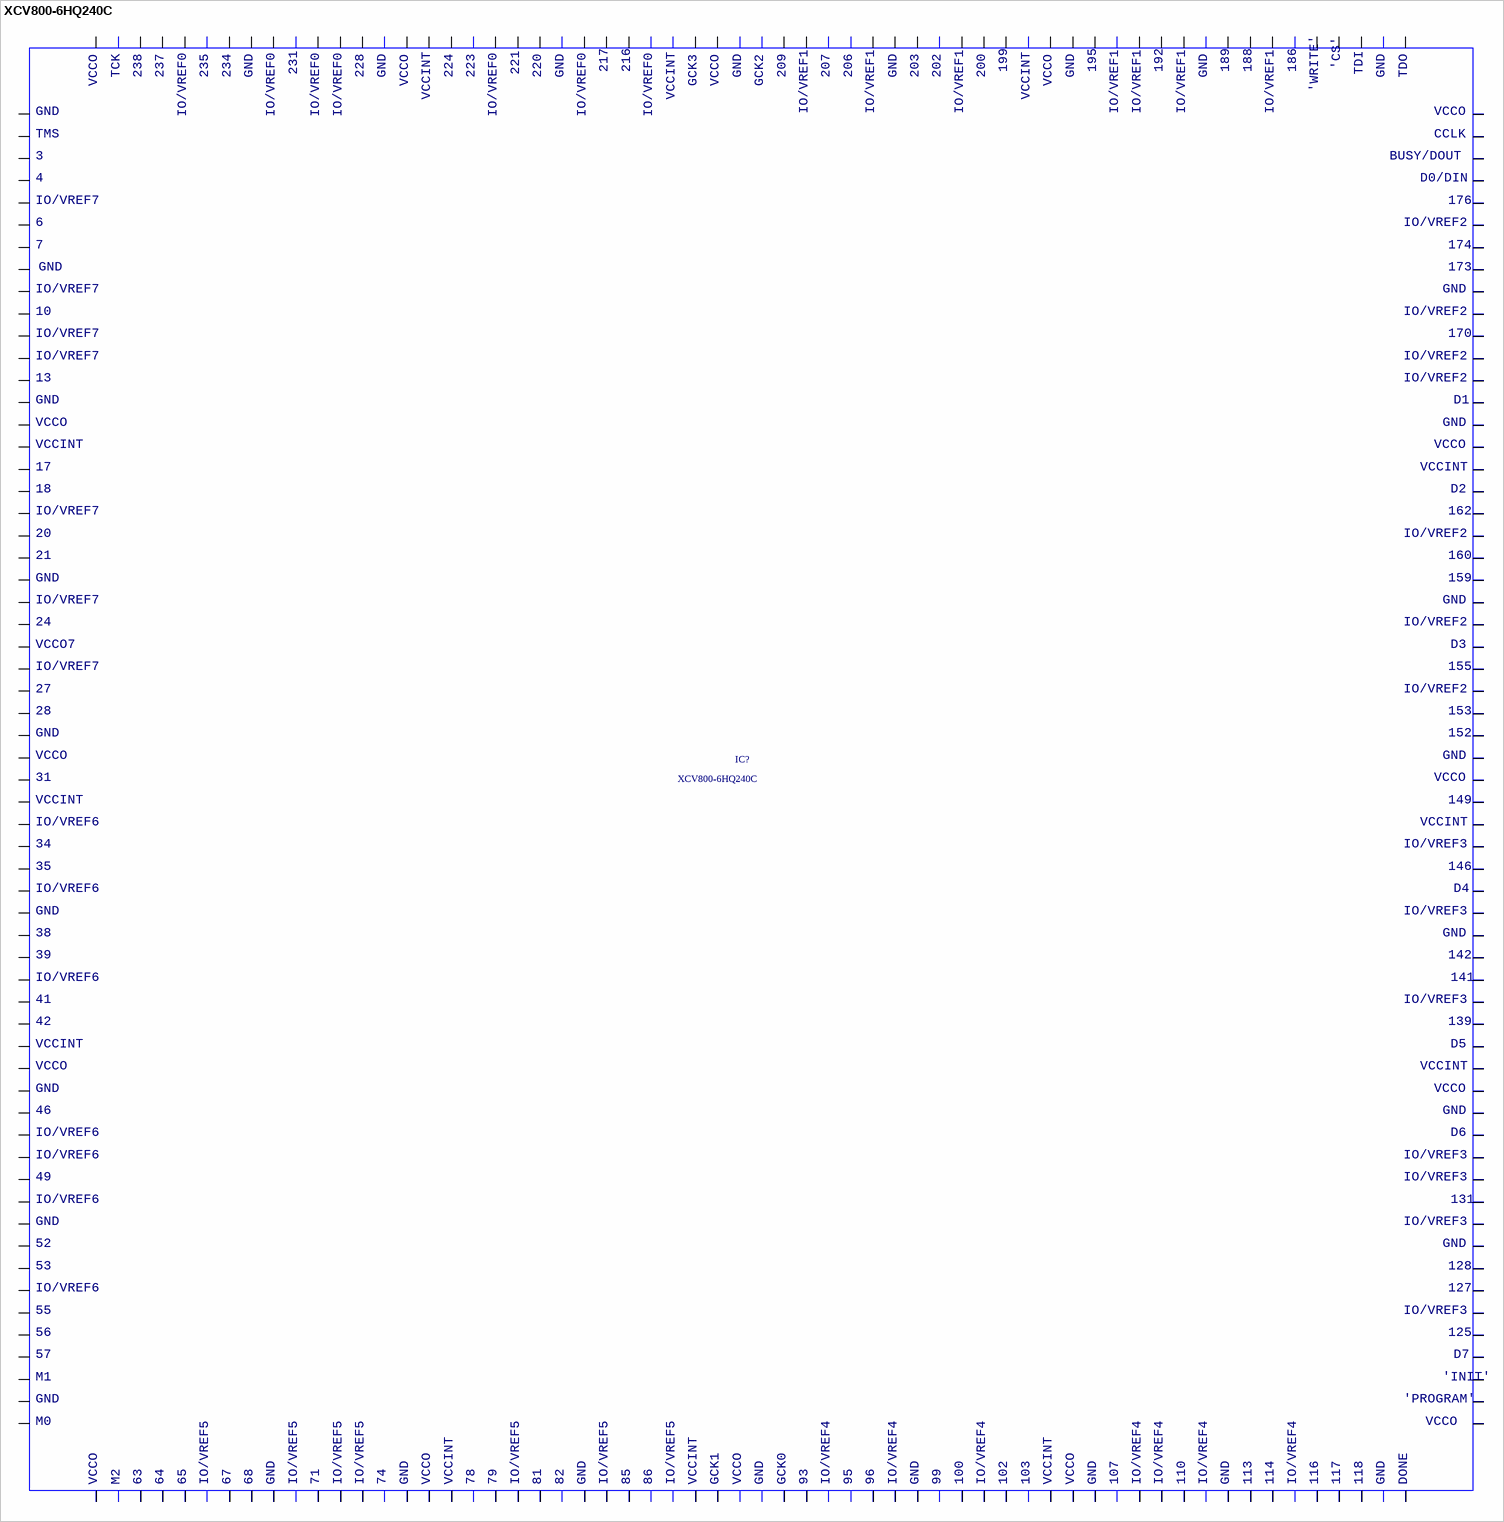
[diagram p182: symbol XCV800-6HQ240C]

## XCV800-6HQ240C
designator IC?
FPGA
footprint smd PQFP/240
pins: 1, 2, 3, 4, 5, 6, 7, 8, 9, 10, 11, 12, 13, 14, 15, 16, 17, 18, 19, 20, 21, 22, 23, 24, 25, 26, 27, 28, 29, 30, 31, 32, 33, 34, 35, 36, 37, 38, 39, 40, 41, 42, 43, 44, 45, 46, 47, 48, 49, 50, 51, 52, 53, 54, 55, 56, 57, 58, 59, 60, 61, 62, 63, 64, 65, 66, 67, 68, 69, 70, 71, 72, 73, 74, 75, 76, 77, 78, 79, 80, 81, 82, 83, 84, 85, 86, 87, 88, 89, 90, 91, 92, 93, 94, 95, 96, 97, 98, 99, 100, 101, 102, 103, 104, 105, 106, 107, 108, 109, 110, 111, 112, 113, 114, 115, 116, 117, 118, 119, 120, 121, 122, 123, 124, 125, 126, 127, 128, 129, 130, 131, 132, 133, 134, 135, 136, 137, 138, 139, 140, 141, 142, 143, 144, 145, 146, 147, 148, 149, 150, 151, 152, 153, 154, 155, 156, 157, 158, 159, 160, 161, 162, 163, 164, 165, 166, 167, 168, 169, 170, 171, 172, 173, 174, 175, 176, 177, 178, 179, 180, 181, 182, 183, 184, 185, 186, 187, 188, 189, 190, 191, 192, 193, 194, 195, 196, 197, 198, 199, 200, 201, 202, 203, 204, 205, 206, 207, 208, 209, 210, 211, 212, 213, 214, 215, 216, 217, 218, 219, 220, 221, 222, 223, 224, 225, 226, 227, 228, 229, 230, 231, 232, 233, 234, 235, 236, 237, 238, 239, 240
text: 'CS'; TDI; TCK; GND; TDO; VCCO; GCK3; GCK2; 'WRITE'; VCCINT; IO/VREF0; IO/VREF1; TMS; CCLK; BUSY/DOUT; D0/DIN; IO/VREF7; IO/VREF2; D1; D2; VCCO7; D3; IO/VREF6; IO/VREF3; D4; D5; D6; D7; M1; 'INIT'; 'PROGRAM'; M0; M2; IO/VREF5; GCK1; GCK0; IO/VREF4; DONE


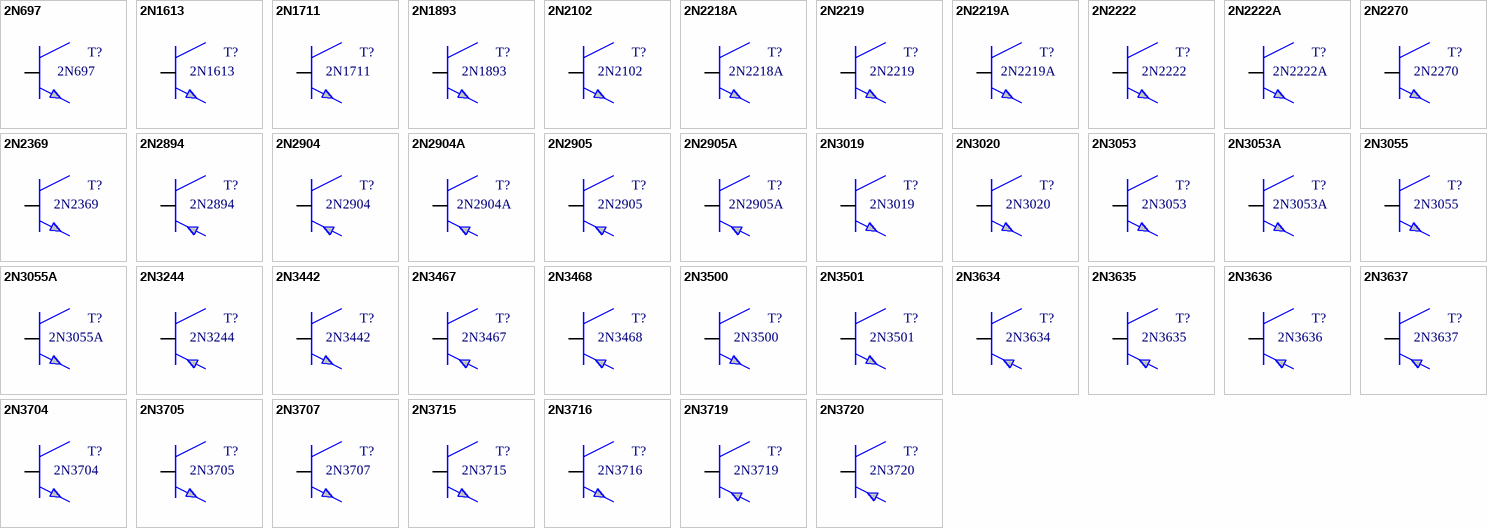
[diagram p183: symbols 2N697 to 2N3720]

## 2N697
designator T?
NPN transistor
footprint TO-39
pins: 1, 2, 3

## 2N1613
designator T?
NPN transistor
footprint TO-39
pins: 1, 2, 3

## 2N1711
designator T?
NPN transistor
footprint TO-39
pins: 1, 2, 3

## 2N1893
designator T?
NPN transistor
footprint TO-39
pins: 1, 2, 3

## 2N2102
designator T?
NPN transistor
footprint TO-39
pins: 1, 2, 3

## 2N2218A
designator T?
NPN transistor
footprint TO-39
pins: 1, 2, 3

## 2N2219
designator T?
NPN transistor
footprint TO-39
pins: 1, 2, 3

## 2N2219A
designator T?
NPN transistor
footprint TO-39
pins: 1, 2, 3

## 2N2222
designator T?
NPN transistor
footprint TO-18
pins: 1, 2, 3

## 2N2222A
designator T?
NPN transistor
footprint TO-18
pins: 1, 2, 3

## 2N2270
designator T?
NPN transistor
footprint TO-39
pins: 1, 2, 3

## 2N2369
designator T?
NPN transistor
footprint TO-18
pins: 1, 2, 3

## 2N2894
designator T?
PNP transistor
footprint TO-18
pins: 1, 2, 3

## 2N2904
designator T?
PNP transistor
footprint TO-39
pins: 1, 2, 3

## 2N2904A
designator T?
PNP transistor
footprint TO-39
pins: 1, 2, 3

## 2N2905
designator T?
PNP transistor
footprint TO-39
pins: 1, 2, 3

## 2N2905A
designator T?
PNP transistor
footprint TO-39
pins: 1, 2, 3

## 2N3019
designator T?
NPN transistor
footprint TO-39
pins: 1, 2, 3

## 2N3020
designator T?
NPN transistor
footprint TO-39
pins: 1, 2, 3

## 2N3053
designator T?
NPN transistor
footprint TO-39
pins: 1, 2, 3

## 2N3053A
designator T?
NPN transistor
footprint TO-39
pins: 1, 2, 3

## 2N3055
designator T?
NPN transistor
footprint TO-3
pins: 1, 2, 3

## 2N3055A
designator T?
NPN transistor
footprint TO-3
pins: 1, 2, 3

## 2N3244
designator T?
PNP transistor
footprint TO-39
pins: 1, 2, 3

## 2N3442
designator T?
NPN transistor
footprint TO-3
pins: 1, 2, 3

## 2N3467
designator T?
PNP transistor
footprint TO-39
pins: 1, 2, 3

## 2N3468
designator T?
PNP transistor
footprint TO-39
pins: 1, 2, 3

## 2N3500
designator T?
NPN transistor
footprint TO-39
pins: 1, 2, 3

## 2N3501
designator T?
NPN transistor
footprint TO-39
pins: 1, 2, 3

## 2N3634
designator T?
PNP transistor
footprint TO-39
pins: 1, 2, 3

## 2N3635
designator T?
PNP transistor
footprint TO-39
pins: 1, 2, 3

## 2N3636
designator T?
PNP transistor
footprint TO-39
pins: 1, 2, 3

## 2N3637
designator T?
PNP transistor
footprint TO-39
pins: 1, 2, 3

## 2N3704
designator T?
NPN transistor
footprint TO-92
pins: 1, 2, 3

## 2N3705
designator T?
NPN transistor
footprint TO-92
pins: 1, 2, 3

## 2N3707
designator T?
NPN transistor
footprint TO-92
pins: 1, 2, 3

## 2N3715
designator T?
NPN transistor
footprint TO-3
pins: 1, 2, 3

## 2N3716
designator T?
NPN transistor
footprint TO-3
pins: 1, 2, 3

## 2N3719
designator T?
PNP transistor
footprint TO-39
pins: 1, 2, 3

## 2N3720
designator T?
PNP transistor
footprint TO-39
pins: 1, 2, 3

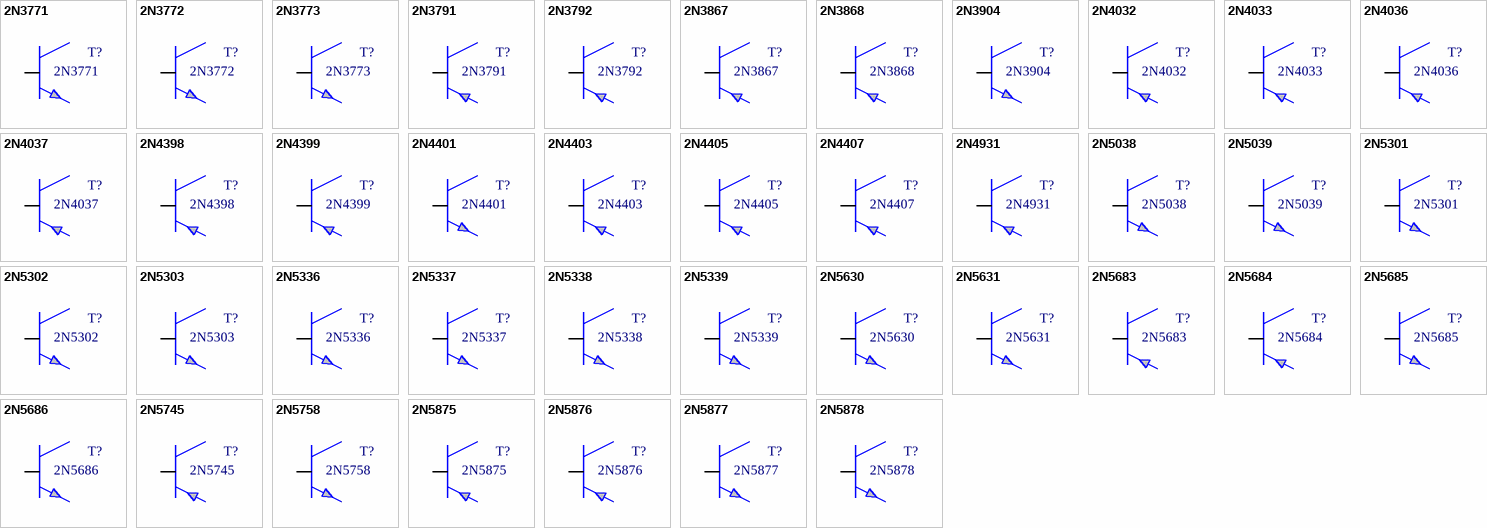
[diagram p184: symbols 2N3771 to 2N5878]

## 2N3771
designator T?
NPN transistor
footprint TO-3
pins: 1, 2, 3

## 2N3772
designator T?
NPN transistor
footprint TO-3
pins: 1, 2, 3

## 2N3773
designator T?
NPN transistor
footprint TO-3
pins: 1, 2, 3

## 2N3791
designator T?
PNP transistor
footprint TO-3
pins: 1, 2, 3

## 2N3792
designator T?
PNP transistor
footprint TO-3
pins: 1, 2, 3

## 2N3867
designator T?
PNP transistor
footprint TO-39
pins: 1, 2, 3

## 2N3868
designator T?
PNP transistor
footprint TO-39
pins: 1, 2, 3

## 2N3904
designator T?
NPN transistor
footprint TO-92
pins: 1, 2, 3

## 2N4032
designator T?
PNP transistor
footprint TO-39
pins: 1, 2, 3

## 2N4033
designator T?
PNP transistor
footprint TO-39
pins: 1, 2, 3

## 2N4036
designator T?
PNP transistor
footprint TO-39
pins: 1, 2, 3

## 2N4037
designator T?
PNP transistor
footprint TO-39
pins: 1, 2, 3

## 2N4398
designator T?
PNP transistor
footprint TO-3
pins: 1, 2, 3

## 2N4399
designator T?
PNP transistor
footprint TO-3
pins: 1, 2, 3

## 2N4401
designator T?
NPN transistor
footprint TO-92
pins: 1, 2, 3

## 2N4403
designator T?
PNP transistor
footprint TO-92
pins: 1, 2, 3

## 2N4405
designator T?
PNP transistor
footprint TO-39
pins: 1, 2, 3

## 2N4407
designator T?
PNP transistor
footprint TO-39
pins: 1, 2, 3

## 2N4931
designator T?
PNP transistor
footprint TO-39
pins: 1, 2, 3

## 2N5038
designator T?
NPN transistor
footprint TO-3
pins: 1, 2, 3

## 2N5039
designator T?
NPN transistor
footprint TO-3
pins: 1, 2, 3

## 2N5301
designator T?
NPN transistor
footprint TO-3
pins: 1, 2, 3

## 2N5302
designator T?
NPN transistor
footprint TO-3
pins: 1, 2, 3

## 2N5303
designator T?
NPN transistor
footprint TO-3
pins: 1, 2, 3

## 2N5336
designator T?
NPN transistor
footprint TO-39
pins: 1, 2, 3

## 2N5337
designator T?
NPN transistor
footprint TO-39
pins: 1, 2, 3

## 2N5338
designator T?
NPN transistor
footprint TO-39
pins: 1, 2, 3

## 2N5339
designator T?
NPN transistor
footprint TO-39
pins: 1, 2, 3

## 2N5630
designator T?
NPN transistor
footprint TO-3
pins: 1, 2, 3

## 2N5631
designator T?
NPN transistor
footprint TO-3
pins: 1, 2, 3

## 2N5683
designator T?
PNP transistor
footprint TO-3
pins: 1, 2, 3

## 2N5684
designator T?
PNP transistor
footprint TO-3
pins: 1, 2, 3

## 2N5685
designator T?
NPN transistor
footprint TO-3
pins: 1, 2, 3

## 2N5686
designator T?
NPN transistor
footprint TO-3
pins: 1, 2, 3

## 2N5745
designator T?
PNP transistor
footprint TO-3
pins: 1, 2, 3

## 2N5758
designator T?
NPN transistor
footprint TO-3
pins: 1, 2, 3

## 2N5875
designator T?
PNP transistor
footprint TO-3
pins: 1, 2, 3

## 2N5876
designator T?
PNP transistor
footprint TO-3
pins: 1, 2, 3

## 2N5877
designator T?
NPN transistor
footprint TO-3
pins: 1, 2, 3

## 2N5878
designator T?
NPN transistor
footprint TO-3
pins: 1, 2, 3

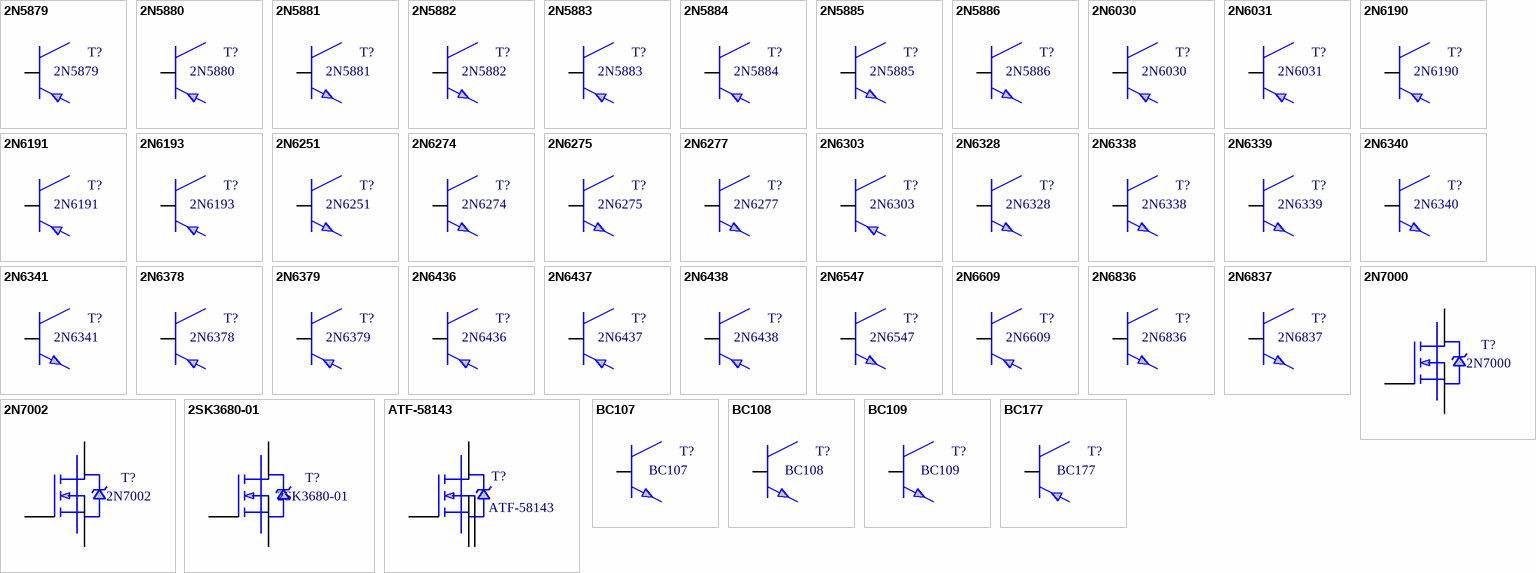
[diagram p185: symbols 2N5879 to BC177]

## 2N5879
designator T?
PNP transistor
footprint TO-3
pins: 1, 2, 3

## 2N5880
designator T?
PNP transistor
footprint TO-3
pins: 1, 2, 3

## 2N5881
designator T?
NPN transistor
footprint TO-3
pins: 1, 2, 3

## 2N5882
designator T?
NPN transistor
footprint TO-3
pins: 1, 2, 3

## 2N5883
designator T?
PNP transistor
footprint TO-3
pins: 1, 2, 3

## 2N5884
designator T?
PNP transistor
footprint TO-3
pins: 1, 2, 3

## 2N5885
designator T?
NPN transistor
footprint TO-3
pins: 1, 2, 3

## 2N5886
designator T?
NPN transistor
footprint TO-3
pins: 1, 2, 3

## 2N6030
designator T?
PNP transistor
footprint TO-3
pins: 1, 2, 3

## 2N6031
designator T?
PNP transistor
footprint TO-3
pins: 1, 2, 3

## 2N6190
designator T?
PNP transistor
footprint TO-39
pins: 1, 2, 3

## 2N6191
designator T?
PNP transistor
footprint TO-39
pins: 1, 2, 3

## 2N6193
designator T?
PNP transistor
footprint TO-39
pins: 1, 2, 3

## 2N6251
designator T?
NPN transistor
footprint TO-3
pins: 1, 2, 3

## 2N6274
designator T?
NPN transistor
footprint TO-3
pins: 1, 2, 3

## 2N6275
designator T?
NPN transistor
footprint TO-3
pins: 1, 2, 3

## 2N6277
designator T?
NPN transistor
footprint TO-3
pins: 1, 2, 3

## 2N6303
designator T?
PNP transistor
footprint TO-39
pins: 1, 2, 3

## 2N6328
designator T?
NPN transistor
footprint TO-3
pins: 1, 2, 3

## 2N6338
designator T?
NPN transistor
footprint TO-3
pins: 1, 2, 3

## 2N6339
designator T?
NPN transistor
footprint TO-3
pins: 1, 2, 3

## 2N6340
designator T?
NPN transistor
footprint TO-3
pins: 1, 2, 3

## 2N6341
designator T?
NPN transistor
footprint TO-3
pins: 1, 2, 3

## 2N6378
designator T?
PNP transistor
footprint TO-3
pins: 1, 2, 3

## 2N6379
designator T?
PNP transistor
footprint TO-3
pins: 1, 2, 3

## 2N6436
designator T?
PNP transistor
footprint TO-3
pins: 1, 2, 3

## 2N6437
designator T?
PNP transistor
footprint TO-3
pins: 1, 2, 3

## 2N6438
designator T?
PNP transistor
footprint TO-3
pins: 1, 2, 3

## 2N6547
designator T?
NPN transistor
footprint TO-3
pins: 1, 2, 3

## 2N6609
designator T?
PNP transistor
footprint TO-3
pins: 1, 2, 3

## 2N6836
designator T?
NPN transistor
footprint TO-3
pins: 1, 2, 3

## 2N6837
designator T?
NPN transistor
footprint TO-3
pins: 1, 2, 3

## 2N7000
designator T?
mosfet N-kanaal
footprint TO-92
pins: 1, 2, 3

## 2N7002
designator T?
mosfet N-kanaal
footprint smd SOT-23
pins: 1, 2, 3

## 2SK3680-01
designator T?
mosfet N-kanaal
footprint TO-247 (vertikaal)
pins: 1, 2, 3

## ATF-58143
designator T?
Low Noise Enhancement Mode Pseudomorphic HEMT
footprint smd SOT-343
pins: 1, 2, 3, 4

## BC107
designator T?
NPN transistor
footprint TO-18
pins: 1, 2, 3

## BC108
designator T?
NPN transistor
footprint TO-18
pins: 1, 2, 3

## BC109
designator T?
NPN transistor
footprint TO-18
pins: 1, 2, 3

## BC177
designator T?
PNP transistor
footprint TO-18
pins: 1, 2, 3

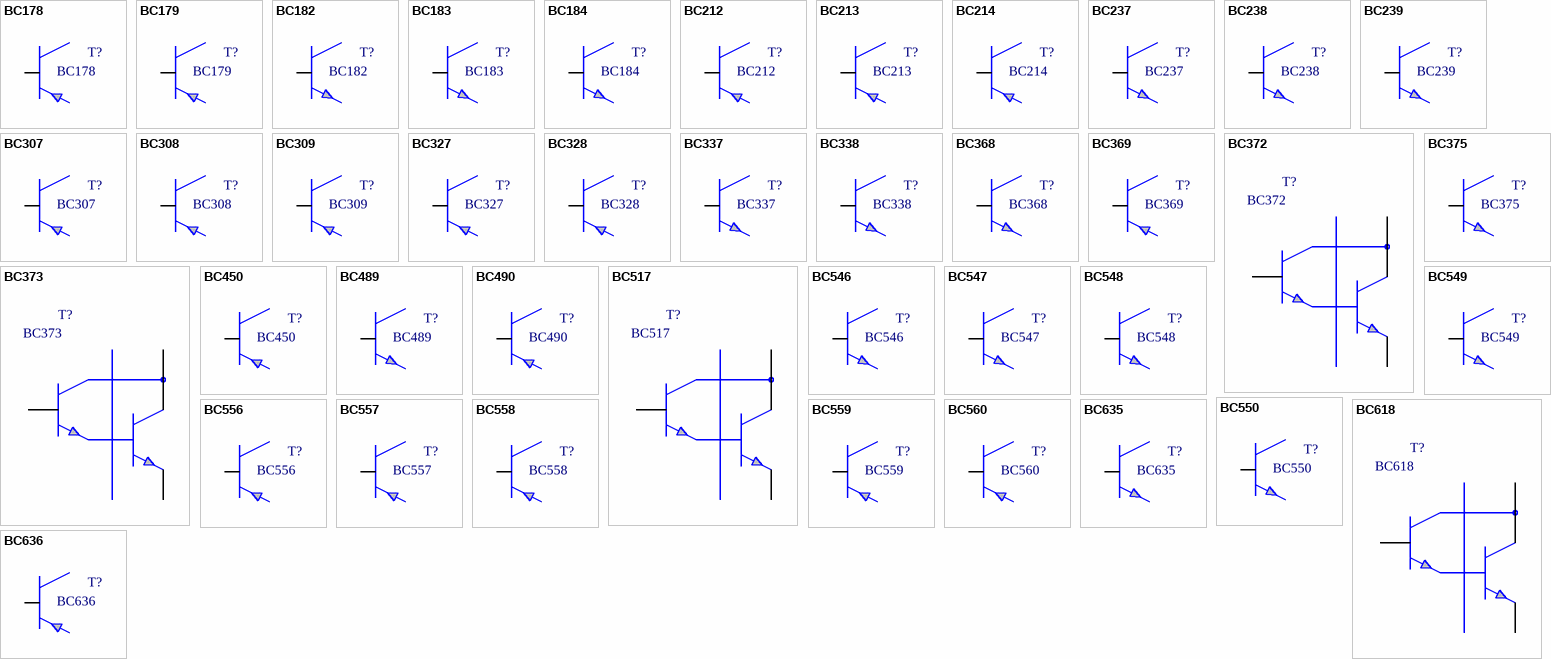
[diagram p186: symbols BC178 to BC636]

## BC178
designator T?
PNP transistor
footprint TO-18
pins: 1, 2, 3

## BC179
designator T?
PNP transistor
footprint TO-18
pins: 1, 2, 3

## BC182
designator T?
NPN transistor
footprint TO-92
pins: 1, 2, 3

## BC183
designator T?
NPN transistor
footprint TO-92
pins: 1, 2, 3

## BC184
designator T?
NPN transistor
footprint TO-92
pins: 1, 2, 3

## BC212
designator T?
PNP transistor
footprint TO-92
pins: 1, 2, 3

## BC213
designator T?
PNP transistor
footprint TO-92
pins: 1, 2, 3

## BC214
designator T?
PNP transistor
footprint TO-92
pins: 1, 2, 3

## BC237
designator T?
NPN transistor
footprint TO-92
pins: 1, 2, 3

## BC238
designator T?
NPN transistor
footprint TO-92
pins: 1, 2, 3

## BC239
designator T?
NPN transistor
footprint TO-92
pins: 1, 2, 3

## BC307
designator T?
PNP transistor
footprint TO-92
pins: 1, 2, 3

## BC308
designator T?
PNP transistor
footprint TO-92
pins: 1, 2, 3

## BC309
designator T?
PNP transistor
footprint TO-92
pins: 1, 2, 3

## BC327
designator T?
PNP transistor
footprint TO-92
pins: 1, 2, 3

## BC328
designator T?
PNP transistor
footprint TO-92
pins: 1, 2, 3

## BC337
designator T?
NPN transistor
footprint TO-92
pins: 1, 2, 3

## BC338
designator T?
NPN transistor
footprint TO-92
pins: 1, 2, 3

## BC368
designator T?
NPN transistor
footprint TO-92
pins: 1, 2, 3

## BC369
designator T?
PNP transistor
footprint TO-92
pins: 1, 2, 3

## BC372
designator T?
NPN darlington transistor
footprint TO-92
pins: 1, 2, 3

## BC373
designator T?
NPN darlington transistor
footprint TO-92
pins: 1, 2, 3

## BC375
designator T?
NPN transistor
footprint TO-92
pins: 1, 2, 3

## BC450
designator T?
PNP transistor
footprint TO-92
pins: 1, 2, 3

## BC489
designator T?
NPN transistor
footprint TO-92
pins: 1, 2, 3

## BC490
designator T?
PNP transistor
footprint TO-92
pins: 1, 2, 3

## BC517
designator T?
NPN darlington transistor
footprint TO-92
pins: 1, 2, 3

## BC546
designator T?
NPN transistor
footprint TO-92
pins: 1, 2, 3

## BC547
designator T?
NPN transistor
footprint TO-92
pins: 1, 2, 3

## BC548
designator T?
NPN transistor
footprint TO-92
pins: 1, 2, 3

## BC549
designator T?
NPN transistor
footprint TO-92
pins: 1, 2, 3

## BC550
designator T?
NPN transistor
footprint TO-92
pins: 1, 2, 3

## BC556
designator T?
PNP transistor
footprint TO-92
pins: 1, 2, 3

## BC557
designator T?
PNP transistor
footprint TO-92
pins: 1, 2, 3

## BC558
designator T?
PNP transistor
footprint TO-92
pins: 1, 2, 3

## BC559
designator T?
PNP transistor
footprint TO-92
pins: 1, 2, 3

## BC560
designator T?
PNP transistor
footprint TO-92
pins: 1, 2, 3

## BC618
designator T?
NPN darlington transistor
footprint TO-92
pins: 1, 2, 3

## BC635
designator T?
NPN transistor
footprint TO-92
pins: 1, 2, 3

## BC636
designator T?
PNP transistor
footprint TO-92
pins: 1, 2, 3

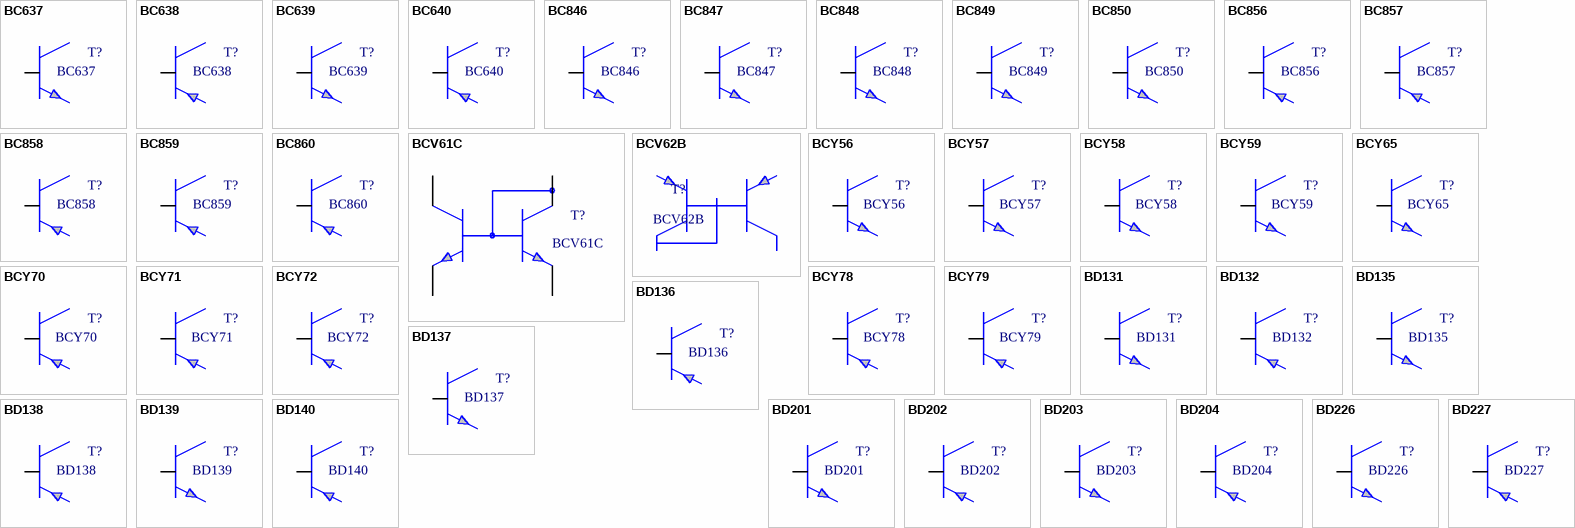
[diagram p187: symbols BC637 to BD227]

## BC637
designator T?
NPN transistor
footprint TO-92
pins: 1, 2, 3

## BC638
designator T?
PNP transistor
footprint TO-92
pins: 1, 2, 3

## BC639
designator T?
NPN transistor
footprint TO-92
pins: 1, 2, 3

## BC640
designator T?
PNP transistor
footprint TO-92
pins: 1, 2, 3

## BC846
designator T?
NPN transistor, smd
footprint smd SOT-23
pins: 1, 2, 3

## BC847
designator T?
NPN transistor, smd
footprint smd SOT-23
pins: 1, 2, 3

## BC848
designator T?
NPN transistor, smd
footprint smd SOT-23
pins: 1, 2, 3

## BC849
designator T?
NPN transistor, smd
footprint smd SOT-23
pins: 1, 2, 3

## BC850
designator T?
NPN transistor, smd
footprint smd SOT-23
pins: 1, 2, 3

## BC856
designator T?
PNP transistor, smd
footprint smd SOT-23
pins: 1, 2, 3

## BC857
designator T?
PNP transistor, smd
footprint smd SOT-23
pins: 1, 2, 3

## BC858
designator T?
PNP transistor, smd
footprint smd SOT-23
pins: 1, 2, 3

## BC859
designator T?
PNP transistor, smd
footprint smd SOT-23
pins: 1, 2, 3

## BC860
designator T?
PNP transistor, smd
footprint smd SOT-23
pins: 1, 2, 3

## BCV61C
designator T?
dubbele NPN transistor
footprint smd SOT-143
pins: 1, 2, 3, 4

## BCV62B
designator T?
Dual PNP transistor
footprint smd SOT-143
pins: 1, 2, 3, 4

## BCY56
designator T?
NPN transistor
footprint TO-18
pins: 1, 2, 3

## BCY57
designator T?
NPN transistor
footprint TO-18
pins: 1, 2, 3

## BCY58
designator T?
NPN transistor
footprint TO-18
pins: 1, 2, 3

## BCY59
designator T?
NPN transistor
footprint TO-18
pins: 1, 2, 3

## BCY65
designator T?
NPN transistor
footprint TO-18
pins: 1, 2, 3

## BCY70
designator T?
PNP transistor
footprint TO-18
pins: 1, 2, 3

## BCY71
designator T?
PNP transistor
footprint TO-18
pins: 1, 2, 3

## BCY72
designator T?
PNP transistor
footprint TO-18
pins: 1, 2, 3

## BCY78
designator T?
PNP transistor
footprint TO-18
pins: 1, 2, 3

## BCY79
designator T?
PNP transistor
footprint TO-18
pins: 1, 2, 3

## BD131
designator T?
NPN transistor
footprint TO-126 (vertikaal)
pins: 1, 2, 3

## BD132
designator T?
PNP transistor
footprint TO-126 (vertikaal)
pins: 1, 2, 3

## BD135
designator T?
NPN transistor
footprint TO-126 (vertikaal)
pins: 1, 2, 3

## BD136
designator T?
PNP transistor
footprint TO-126 (vertikaal)
pins: 1, 2, 3

## BD137
designator T?
NPN transistor
footprint TO-126 (vertikaal)
pins: 1, 2, 3

## BD138
designator T?
PNP transistor
footprint TO-126 (vertikaal)
pins: 1, 2, 3

## BD139
designator T?
NPN transistor
footprint TO-126 (vertikaal)
pins: 1, 2, 3

## BD140
designator T?
PNP transistor
footprint TO-126 (vertikaal)
pins: 1, 2, 3

## BD201
designator T?
NPN transistor
footprint TO-220 (vertikaal)
pins: 1, 2, 3

## BD202
designator T?
PNP transistor
footprint TO-220 (vertikaal)
pins: 1, 2, 3

## BD203
designator T?
NPN transistor
footprint TO-220 (vertikaal)
pins: 1, 2, 3

## BD204
designator T?
PNP transistor
footprint TO-220 (vertikaal)
pins: 1, 2, 3

## BD226
designator T?
NPN transistor
footprint TO-126 (vertikaal)
pins: 1, 2, 3

## BD227
designator T?
PNP transistor
footprint TO-126 (vertikaal)
pins: 1, 2, 3

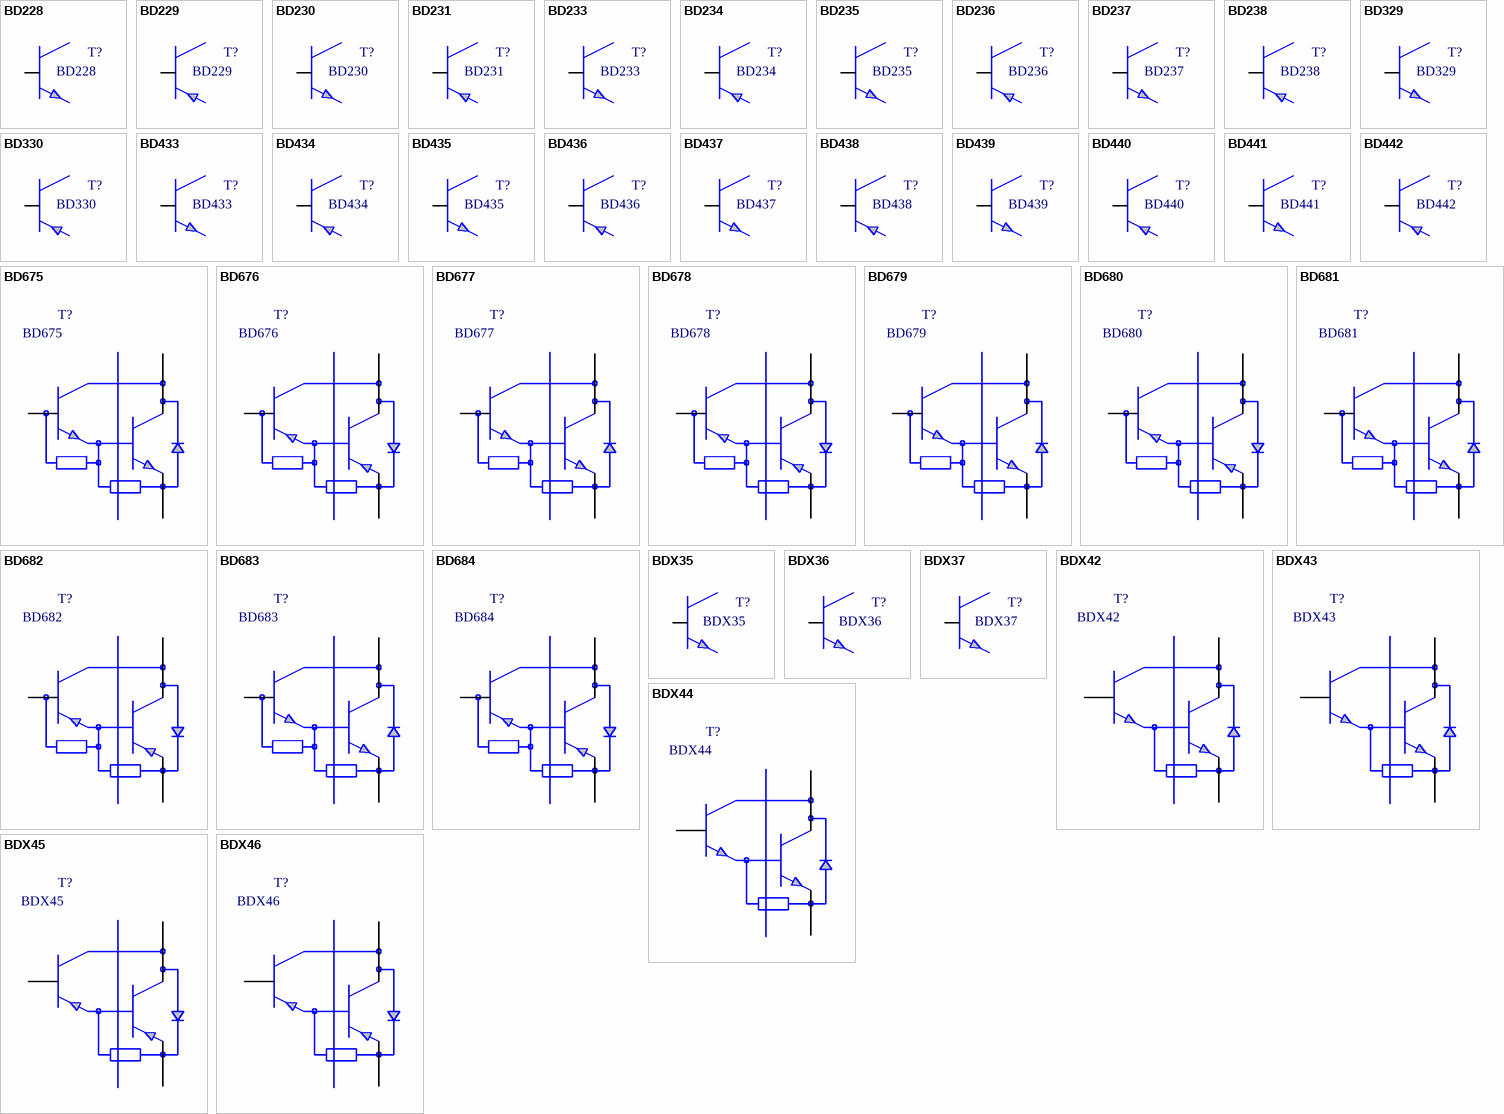
[diagram p188: symbols BD228 to BDX46]

## BD228
designator T?
NPN transistor
footprint TO-126 (vertikaal)
pins: 1, 2, 3

## BD229
designator T?
PNP transistor
footprint TO-126 (vertikaal)
pins: 1, 2, 3

## BD230
designator T?
NPN transistor
footprint TO-126 (vertikaal)
pins: 1, 2, 3

## BD231
designator T?
PNP transistor
footprint TO-126 (vertikaal)
pins: 1, 2, 3

## BD233
designator T?
NPN transistor
footprint TO-126 (vertikaal)
pins: 1, 2, 3

## BD234
designator T?
PNP transistor
footprint TO-126 (vertikaal)
pins: 1, 2, 3

## BD235
designator T?
NPN transistor
footprint TO-126 (vertikaal)
pins: 1, 2, 3

## BD236
designator T?
PNP transistor
footprint TO-126 (vertikaal)
pins: 1, 2, 3

## BD237
designator T?
NPN transistor
footprint TO-126 (vertikaal)
pins: 1, 2, 3

## BD238
designator T?
PNP transistor
footprint TO-126 (vertikaal)
pins: 1, 2, 3

## BD329
designator T?
NPN transistor
footprint TO-126 (vertikaal)
pins: 1, 2, 3

## BD330
designator T?
PNP transistor
footprint TO-126 (vertikaal)
pins: 1, 2, 3

## BD433
designator T?
NPN transistor
footprint TO-126 (vertikaal)
pins: 1, 2, 3

## BD434
designator T?
PNP transistor
footprint TO-126 (vertikaal)
pins: 1, 2, 3

## BD435
designator T?
NPN transistor
footprint TO-126 (vertikaal)
pins: 1, 2, 3

## BD436
designator T?
PNP transistor
footprint TO-126 (vertikaal)
pins: 1, 2, 3

## BD437
designator T?
NPN transistor
footprint TO-126 (vertikaal)
pins: 1, 2, 3

## BD438
designator T?
PNP transistor
footprint TO-126 (vertikaal)
pins: 1, 2, 3

## BD439
designator T?
NPN transistor
footprint TO-126 (vertikaal)
pins: 1, 2, 3

## BD440
designator T?
PNP transistor
footprint TO-126 (vertikaal)
pins: 1, 2, 3

## BD441
designator T?
NPN transistor
footprint TO-126 (vertikaal)
pins: 1, 2, 3

## BD442
designator T?
PNP transistor
footprint TO-126 (vertikaal)
pins: 1, 2, 3

## BD675
designator T?
NPN darlington transistor
footprint TO-126 (vertikaal)
pins: 1, 2, 3

## BD676
designator T?
PNP darlington transistor
footprint TO-126 (vertikaal)
pins: 1, 2, 3

## BD677
designator T?
NPN darlington transistor
footprint TO-126 (vertikaal)
pins: 1, 2, 3

## BD678
designator T?
PNP darlington transistor
footprint TO-126 (vertikaal)
pins: 1, 2, 3

## BD679
designator T?
NPN darlington transistor
footprint TO-126 (vertikaal)
pins: 1, 2, 3

## BD680
designator T?
PNP darlington transistor
footprint TO-126 (vertikaal)
pins: 1, 2, 3

## BD681
designator T?
NPN darlington transistor
footprint TO-126 (vertikaal)
pins: 1, 2, 3

## BD682
designator T?
PNP darlington transistor
footprint TO-126 (vertikaal)
pins: 1, 2, 3

## BD683
designator T?
NPN darlington transistor
footprint TO-126 (vertikaal)
pins: 1, 2, 3

## BD684
designator T?
PNP darlington transistor
footprint TO-126 (vertikaal)
pins: 1, 2, 3

## BDX35
designator T?
NPN transistor
footprint TO-126 (vertikaal)
pins: 1, 2, 3

## BDX36
designator T?
NPN transistor
footprint TO-126 (vertikaal)
pins: 1, 2, 3

## BDX37
designator T?
NPN transistor
footprint TO-126 (vertikaal)
pins: 1, 2, 3

## BDX42
designator T?
NPN darlington transistor
footprint TO-126 (vertikaal)
pins: 1, 2, 3

## BDX43
designator T?
NPN darlington transistor
footprint TO-126 (vertikaal)
pins: 1, 2, 3

## BDX44
designator T?
NPN darlington transistor
footprint TO-126 (vertikaal)
pins: 1, 2, 3

## BDX45
designator T?
PNP darlington transistor
footprint TO-126 (vertikaal)
pins: 1, 2, 3

## BDX46
designator T?
PNP darlington transistor
footprint TO-126 (vertikaal)
pins: 1, 2, 3

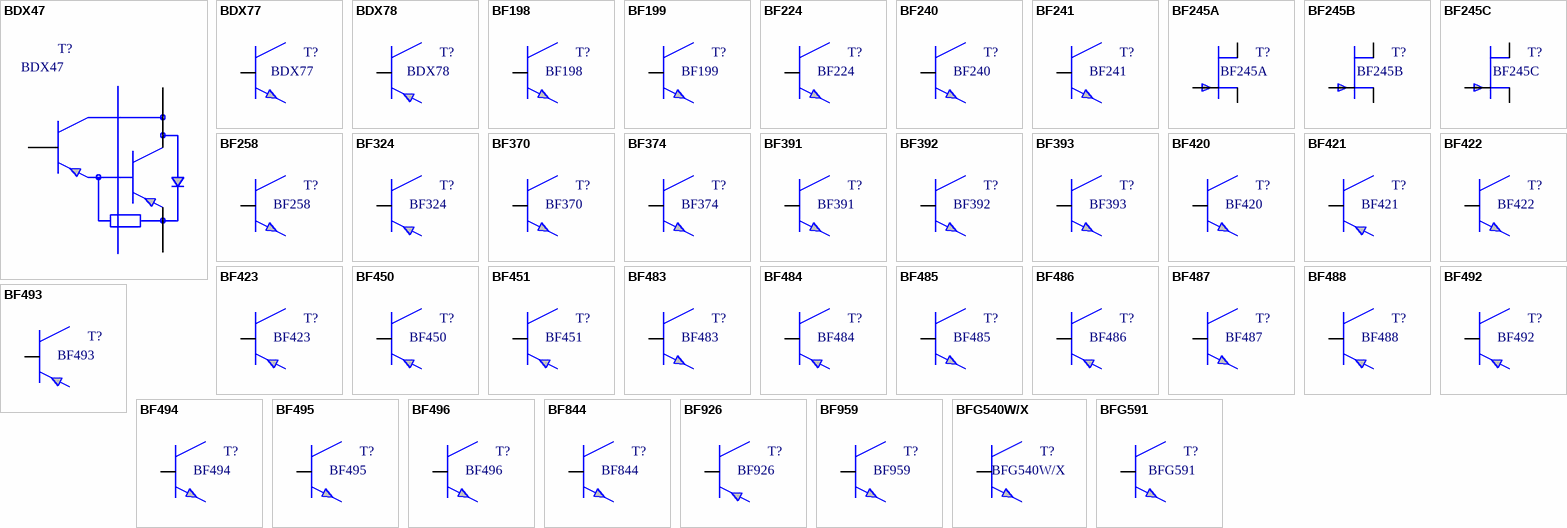
[diagram p189: symbols BDX47 to BFG591]

## BDX47
designator T?
PNP darlington transistor
footprint TO-126 (vertikaal)
pins: 1, 2, 3

## BDX77
designator T?
NPN transistor
footprint TO-220 (vertikaal)
pins: 1, 2, 3

## BDX78
designator T?
PNP transistor
footprint TO-220 (vertikaal)
pins: 1, 2, 3

## BF198
designator T?
NPN transistor
footprint TO-92
pins: 1, 2, 3

## BF199
designator T?
NPN transistor
footprint TO-92
pins: 1, 2, 3

## BF224
designator T?
NPN transistor
footprint TO-92
pins: 1, 2, 3

## BF240
designator T?
NPN transistor
footprint TO-92
pins: 1, 2, 3

## BF241
designator T?
NPN transistor
footprint TO-92
pins: 1, 2, 3

## BF245A
designator T?
fet N-kanaal
footprint TO-92
pins: 1, 2, 3

## BF245B
designator T?
fet N-kanaal
footprint TO-92
pins: 1, 2, 3

## BF245C
designator T?
fet N-kanaal
footprint TO-92
pins: 1, 2, 3

## BF258
designator T?
NPN transistor
footprint TO-39
pins: 1, 2, 3

## BF324
designator T?
PNP transistor
footprint TO-92
pins: 1, 2, 3

## BF370
designator T?
NPN transistor
footprint TO-92
pins: 1, 2, 3

## BF374
designator T?
NPN transistor
footprint TO-92
pins: 1, 2, 3

## BF391
designator T?
NPN transistor
footprint TO-92
pins: 1, 2, 3

## BF392
designator T?
NPN transistor
footprint TO-92
pins: 1, 2, 3

## BF393
designator T?
NPN transistor
footprint TO-92
pins: 1, 2, 3

## BF420
designator T?
NPN transistor
footprint TO-92
pins: 1, 2, 3

## BF421
designator T?
PNP transistor
footprint TO-92
pins: 1, 2, 3

## BF422
designator T?
NPN transistor
footprint TO-92
pins: 1, 2, 3

## BF423
designator T?
PNP transistor
footprint TO-92
pins: 1, 2, 3

## BF450
designator T?
PNP transistor
footprint TO-92
pins: 1, 2, 3

## BF451
designator T?
PNP transistor
footprint TO-92
pins: 1, 2, 3

## BF483
designator T?
NPN transistor
footprint TO-92
pins: 1, 2, 3

## BF484
designator T?
PNP transistor
footprint TO-92
pins: 1, 2, 3

## BF485
designator T?
NPN transistor
footprint TO-92
pins: 1, 2, 3

## BF486
designator T?
PNP transistor
footprint TO-92
pins: 1, 2, 3

## BF487
designator T?
NPN transistor
footprint TO-92
pins: 1, 2, 3

## BF488
designator T?
PNP transistor
footprint TO-92
pins: 1, 2, 3

## BF492
designator T?
PNP transistor
footprint TO-92
pins: 1, 2, 3

## BF493
designator T?
PNP transistor
footprint TO-92
pins: 1, 2, 3

## BF494
designator T?
NPN transistor
footprint TO-92
pins: 1, 2, 3

## BF495
designator T?
NPN transistor
footprint TO-92
pins: 1, 2, 3

## BF496
designator T?
NPN transistor
footprint TO-92
pins: 1, 2, 3

## BF844
designator T?
NPN transistor
footprint TO-92
pins: 1, 2, 3

## BF926
designator T?
PNP transistor
footprint TO-92
pins: 1, 2, 3

## BF959
designator T?
NPN transistor
footprint TO-92
pins: 1, 2, 3

## BFG540W/X
designator T?
NPN 9 GHz breedband transistor
footprint smd SOT-343N
pins: 1, 2, 3

## BFG591
designator T?
NPN transistor
footprint smd SOT-223
pins: 1, 2, 4

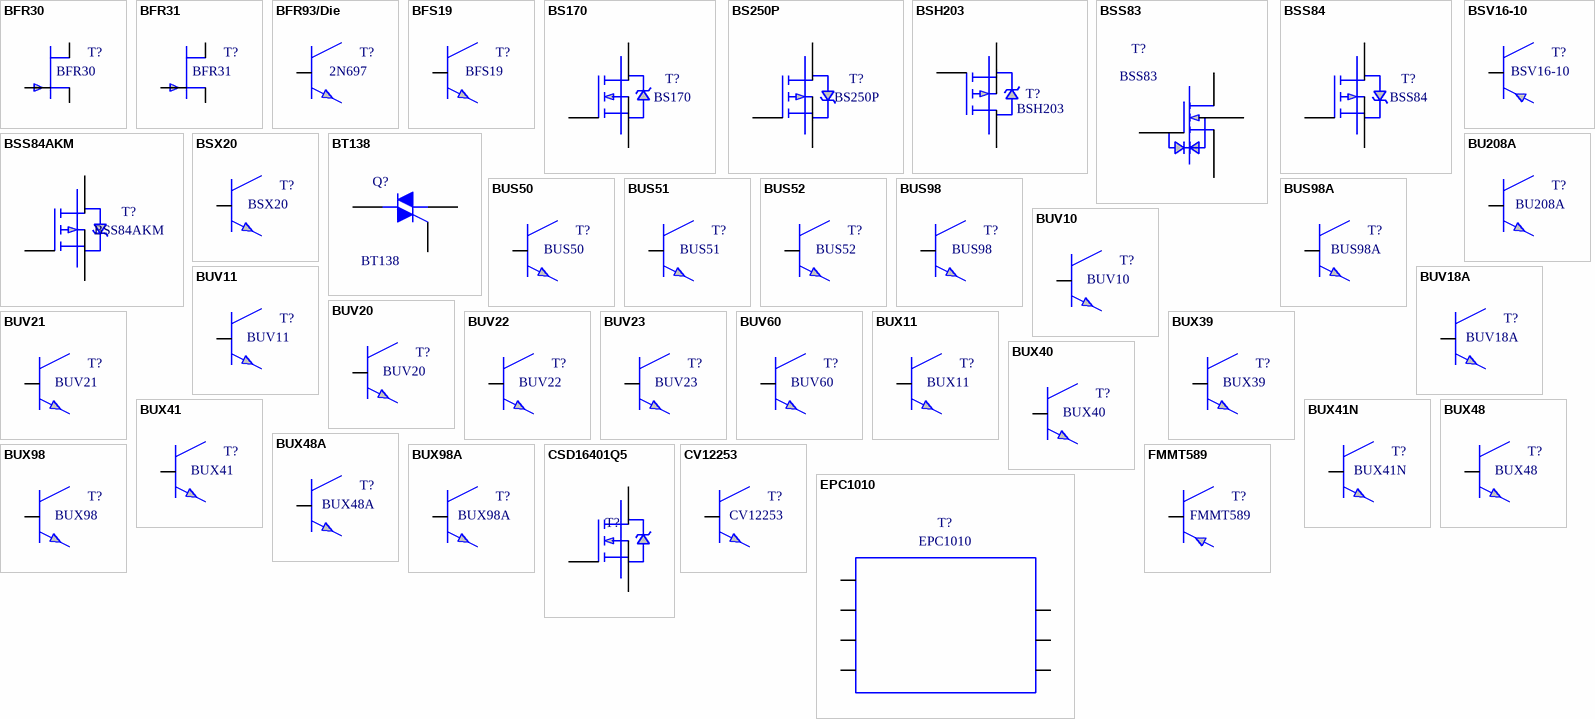
[diagram p190: symbols BFR30 to FMMT589]

## BFR30
designator T?
fet N-kanaal, smd
footprint smd SOT-23
pins: 1, 2, 3

## BFR31
designator T?
fet N-kanaal, smd
footprint smd SOT-23
pins: 1, 2, 3

## BFR93/Die
designator T?, comment 2N697
NPN transistor, naked die
footprint BFR93/die (Naked Die)
pins: 1, 2, 3

## BFS19
designator T?
NPN transistor
footprint smd SOT-23
pins: 1, 2, 3

## BS170
designator T?
fet N-kanaal
footprint TO-92
pins: 1, 2, 3

## BS250P
designator T?
mosfet P-kanaal
footprint E-line 3P
pins: 1, 2, 3

## BSH203
designator T?
mosfet P-kanaal
footprint smd SOT-23
pins: 1, 2, 3

## BSS83
designator T?
mosfet N-kanaal, aparte substraataansluiting
footprint smd SOT-143
pins: 1, 2, 3, 4

## BSS84
designator T?
mosfet P-kanaal
footprint smd SOT-23
pins: 1, 2, 3

## BSS84AKM
designator T?
mosfet P-kanaal
footprint smd SOT-883
pins: 1, 2, 3

## BSV16-10
designator T?
PNP transistor
footprint TO-39
pins: 1, 2, 3

## BSX20
designator T?
NPN transistor
footprint TO-18
pins: 1, 2, 3

## BT138
designator Q?
Triac 12A
footprint TO-220 (vertikaal)
pins: 1 M1, 2 M2, 3 G

## BU208A
designator T?
NPN transistor
footprint TO-3
pins: 1, 2, 3

## BUS50
designator T?
NPN transistor
footprint TO-3
pins: 1, 2, 3

## BUS51
designator T?
NPN transistor
footprint TO-3
pins: 1, 2, 3

## BUS52
designator T?
NPN transistor
footprint TO-3
pins: 1, 2, 3

## BUS98
designator T?
NPN transistor
footprint TO-3
pins: 1, 2, 3

## BUS98A
designator T?
NPN transistor
footprint TO-3
pins: 1, 2, 3

## BUV10
designator T?
NPN transistor
footprint TO-3
pins: 1, 2, 3

## BUV11
designator T?
NPN transistor
footprint TO-3
pins: 1, 2, 3

## BUV18A
designator T?
NPN transistor
footprint TO-3
pins: 1, 2, 3

## BUV20
designator T?
NPN transistor
footprint TO-3
pins: 1, 2, 3

## BUV21
designator T?
NPN transistor
footprint TO-3
pins: 1, 2, 3

## BUV22
designator T?
NPN transistor
footprint TO-3
pins: 1, 2, 3

## BUV23
designator T?
NPN transistor
footprint TO-3
pins: 1, 2, 3

## BUV60
designator T?
NPN transistor
footprint TO-3
pins: 1, 2, 3

## BUX11
designator T?
NPN transistor
footprint TO-3
pins: 1, 2, 3

## BUX39
designator T?
NPN transistor
footprint TO-3
pins: 1, 2, 3

## BUX40
designator T?
NPN transistor
footprint TO-3
pins: 1, 2, 3

## BUX41
designator T?
NPN transistor
footprint TO-3
pins: 1, 2, 3

## BUX41N
designator T?
NPN transistor
footprint TO-3
pins: 1, 2, 3

## BUX48
designator T?
NPN transistor
footprint TO-3
pins: 1, 2, 3

## BUX48A
designator T?
NPN transistor
footprint TO-3
pins: 1, 2, 3

## BUX98
designator T?
NPN transistor
footprint TO-3
pins: 1, 2, 3

## BUX98A
designator T?
NPN transistor
footprint TO-3
pins: 1, 2, 3

## CSD16401Q5
designator T?  (value not drawn)
N-Channel NexFET Power MOSFET
footprint CSD16401Q5
pins: 1, 4, 8

## CV12253
designator T?
NPN transistor
footprint TO-39
pins: 1, 2, 3

## EPC1010
designator T?
enhancement mode power transistor
footprint smd EPC1010
pins: 1 G, 2 S, 3 D, 4 S, 5 D, 6 S, 7 D

## FMMT589
designator T?
PNP transistor, smd
footprint smd SOT-23
pins: 1, 2, 3

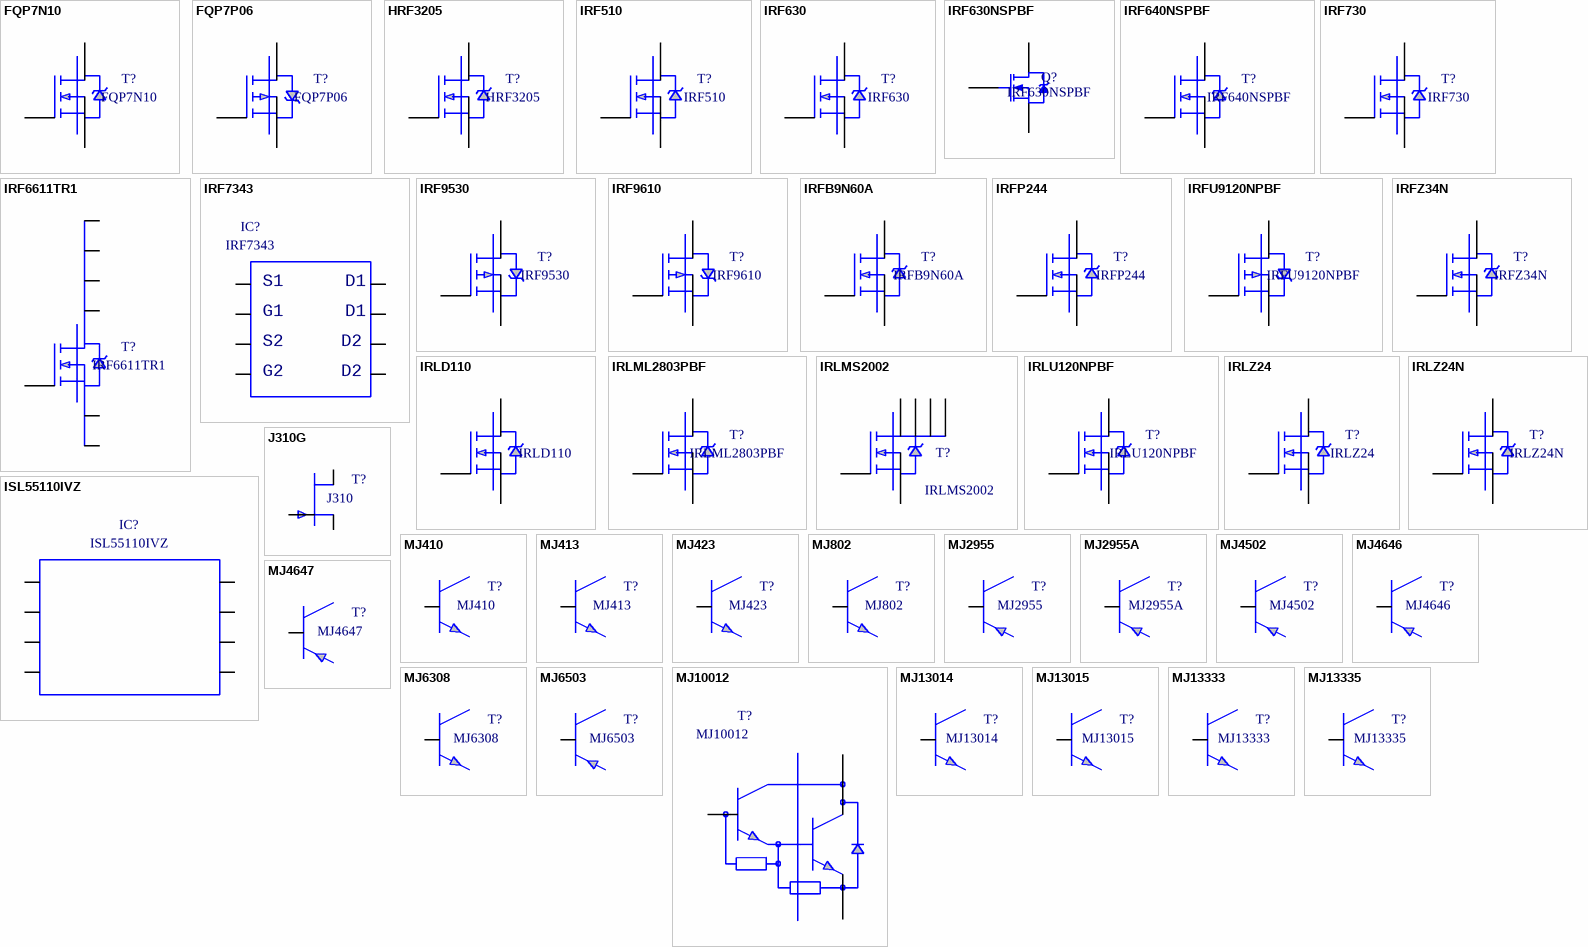
[diagram p191: symbols FQP7N10 to MJ13335]

## FQP7N10
designator T?
power mosfet N-kanaal
footprint TO-220 (vertikaal)
pins: 1, 2, 3

## FQP7P06
designator T?
power mosfet P-kanaal
footprint TO-220 (vertikaal)
pins: 1, 2, 3

## HRF3205
designator T?
mosfet N-kanaal
footprint TO-220 (vertikaal)
pins: 1, 2, 3

## IRF510
designator T?
mosfet N-kanaal
footprint TO-220 (vertikaal)
pins: 1, 2, 3

## IRF630
designator T?
mosfet N-kanaal
footprint TO-220 (vertikaal)
pins: 1, 2, 3

## IRF630NSPBF
designator Q?
HEXFET N-Channel Power MOSFET; Published: 8-Jun-2000; LatestRevisionDate: 20-Nov-2009; LatestRevisionNote: IPC-7351 Footprint Added.; DatasheetVersion: PD-9.901; PackageReference: D2PAK; Publisher: Altium Limited; PackageDescription: 3-Pin Transistor Outline Package 2.54 mm Pitch, 15.1 mm Lead Span; ComponentLink1Description: Manufacturer Link; ComponentLink1URL: http://www.irf.com/; ComponentLink2Description: Datasheet; ComponentLink2URL: http://www.irf.com/product-info/datasheets/data/irf630s.pdf
footprint SMD D2-PAK (D2-PAK, 4-Leads, Body 8.8x10.4mm, Pitch 2.54mm, Lead Span 15.1mm, IPC High Density)
pins: 1 G, 2 D, 3 S

## IRF640NSPBF
designator T?
N-kanaal HEXFET power mosfet
footprint TO-263 3pin
pins: 1, 2, 3

## IRF730
designator T?
mosfet N-kanaal
footprint TO-220 (vertikaal)
pins: 1, 2, 3

## IRF6611TR1
designator T?
DirectFet Power Mosfet
footprint smd MX (International Rectifier)
pins: 1, 2, 3, 4, 5, 6, 7

## IRF7343
designator IC?
dubbele N en P-kanaal Hexfet power mosfet
footprint smd SOICN/8
pins: 1, 2, 3, 4, 5, 6, 7, 8
text: S1; D1; G1; S2; D2; G2

## IRF9530
designator T?
mosfet P-kanaal
footprint TO-220 (vertikaal)
pins: 1, 2, 3

## IRF9610
designator T?
mosfet P-kanaal
footprint TO-220 (vertikaal)
pins: 1, 2, 3

## IRFB9N60A
designator T?
HEXFET power mosfet
footprint TO-220 (vertikaal)
pins: 1, 2, 3

## IRFP244
designator T?
mosfet N-kanaal
footprint TO-247 (vertikaal)
pins: 1, 2, 3

## IRFU9120NPBF
designator T?
mosfet P-kanaal
footprint TO-251AA
pins: 1, 2, 3

## IRFZ34N
designator T?
HEXFET power mosfet
footprint TO-220 (vertikaal)
pins: 1, 2, 3

## IRLD110
designator ?
HEXFET power mosfet
pins: 1, 2, 4

## IRLML2803PBF
designator T?
mosfet N-kanaal
footprint smd SOT-23
pins: 1, 2, 3

## IRLMS2002
designator T?
mosfet N-kanaal
footprint smd micro6
pins: 1, 2, 3, 4, 5, 6

## IRLU120NPBF
designator T?
TO-251AA/MOSNRKD/1
footprint TO-251AA
pins: 1, 2, 3

## IRLZ24
designator T?
mosfet N-kanaal
footprint TO-220 (vertikaal)
pins: 1, 2, 3

## IRLZ24N
designator T?
mosfet N-kanaal
footprint TO-220 (vertikaal)
pins: 1, 2, 3

## ISL55110IVZ
designator IC?
mosfet dual driver
footprint smd TSSOP/8 (body 4.4 pitch 0.65)
pins: 1 Vdd, 2 PD, 3 IN-B, 4 IN-A, 5 OA, 6 VH, 7 GND, 8 OB

## J310G
designator T?, comment J310
Jfet N-kanaal
footprint TO-92
pins: 1, 2, 3

## MJ410
designator T?
NPN transistor
footprint TO-3
pins: 1, 2, 3

## MJ413
designator T?
NPN transistor
footprint TO-3
pins: 1, 2, 3

## MJ423
designator T?
NPN transistor
footprint TO-3
pins: 1, 2, 3

## MJ802
designator T?
NPN transistor
footprint TO-3
pins: 1, 2, 3

## MJ2955
designator T?
PNP transistor
footprint TO-3
pins: 1, 2, 3

## MJ2955A
designator T?
PNP transistor
footprint TO-3
pins: 1, 2, 3

## MJ4502
designator T?
PNP transistor
footprint TO-3
pins: 1, 2, 3

## MJ4646
designator T?
PNP transistor
footprint TO-39
pins: 1, 2, 3

## MJ4647
designator T?
PNP transistor
footprint TO-39
pins: 1, 2, 3

## MJ6308
designator T?
NPN transistor
footprint TO-3
pins: 1, 2, 3

## MJ6503
designator T?
PNP transistor
footprint TO-3
pins: 1, 2, 3

## MJ10012
designator T?
NPN darlington transistor
footprint TO-3
pins: 1, 2, 3

## MJ13014
designator T?
NPN transistor
footprint TO-3
pins: 1, 2, 3

## MJ13015
designator T?
NPN transistor
footprint TO-3
pins: 1, 2, 3

## MJ13333
designator T?
NPN transistor
footprint TO-3
pins: 1, 2, 3

## MJ13335
designator T?
NPN transistor
footprint TO-3
pins: 1, 2, 3

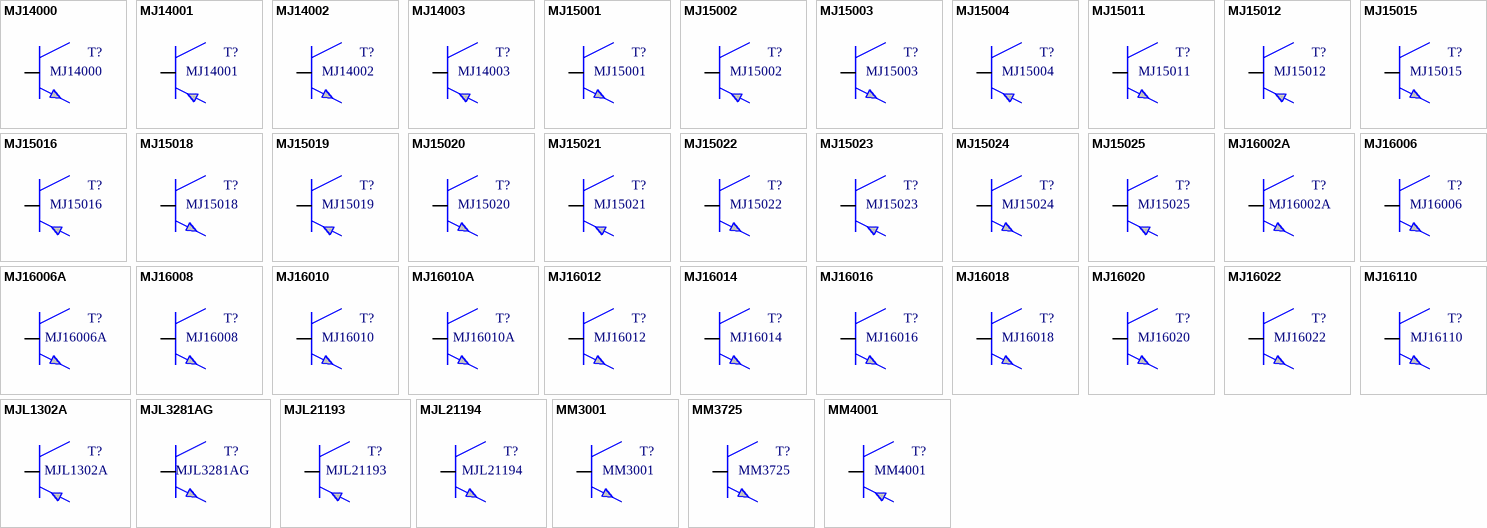
[diagram p192: symbols MJ14000 to MM4001]

## MJ14000
designator T?
NPN transistor
footprint TO-3
pins: 1, 2, 3

## MJ14001
designator T?
PNP transistor
footprint TO-3
pins: 1, 2, 3

## MJ14002
designator T?
NPN transistor
footprint TO-3
pins: 1, 2, 3

## MJ14003
designator T?
PNP transistor
footprint TO-3
pins: 1, 2, 3

## MJ15001
designator T?
NPN transistor
footprint TO-3
pins: 1, 2, 3

## MJ15002
designator T?
PNP transistor
footprint TO-3
pins: 1, 2, 3

## MJ15003
designator T?
NPN transistor
footprint TO-3
pins: 1, 2, 3

## MJ15004
designator T?
PNP transistor
footprint TO-3
pins: 1, 2, 3

## MJ15011
designator T?
NPN transistor
footprint TO-3
pins: 1, 2, 3

## MJ15012
designator T?
PNP transistor
footprint TO-3
pins: 1, 2, 3

## MJ15015
designator T?
NPN transistor
footprint TO-3
pins: 1, 2, 3

## MJ15016
designator T?
PNP transistor
footprint TO-3
pins: 1, 2, 3

## MJ15018
designator T?
NPN transistor
footprint TO-3
pins: 1, 2, 3

## MJ15019
designator T?
PNP transistor
footprint TO-3
pins: 1, 2, 3

## MJ15020
designator T?
NPN transistor
footprint TO-3
pins: 1, 2, 3

## MJ15021
designator T?
PNP transistor
footprint TO-3
pins: 1, 2, 3

## MJ15022
designator T?
NPN transistor
footprint TO-3
pins: 1, 2, 3

## MJ15023
designator T?
PNP transistor
footprint TO-3
pins: 1, 2, 3

## MJ15024
designator T?
NPN transistor
footprint TO-3
pins: 1, 2, 3

## MJ15025
designator T?
PNP transistor
footprint TO-3
pins: 1, 2, 3

## MJ16002A
designator T?
NPN transistor
footprint TO-3
pins: 1, 2, 3

## MJ16006
designator T?
NPN transistor
footprint TO-3
pins: 1, 2, 3

## MJ16006A
designator T?
NPN transistor
footprint TO-3
pins: 1, 2, 3

## MJ16008
designator T?
NPN transistor
footprint TO-3
pins: 1, 2, 3

## MJ16010
designator T?
NPN transistor
footprint TO-3
pins: 1, 2, 3

## MJ16010A
designator T?
NPN transistor
footprint TO-3
pins: 1, 2, 3

## MJ16012
designator T?
NPN transistor
footprint TO-3
pins: 1, 2, 3

## MJ16014
designator T?
NPN transistor
footprint TO-3
pins: 1, 2, 3

## MJ16016
designator T?
NPN transistor
footprint TO-3
pins: 1, 2, 3

## MJ16018
designator T?
NPN transistor
footprint TO-3
pins: 1, 2, 3

## MJ16020
designator T?
NPN transistor
footprint TO-3
pins: 1, 2, 3

## MJ16022
designator T?
NPN transistor
footprint TO-3
pins: 1, 2, 3

## MJ16110
designator T?
NPN transistor
footprint TO-3
pins: 1, 2, 3

## MJL1302A
designator T?
PNP transistor
footprint TO-264 (vertikaal)
pins: 1, 2, 3

## MJL3281AG
designator T?
NPN transistor
footprint TO-264 (vertikaal)
pins: 1, 2, 3

## MJL21193
designator T?
PNP transistor
footprint TO-264 (vertikaal)
pins: 1, 2, 3

## MJL21194
designator T?
NPN transistor
footprint TO-264 (vertikaal)
pins: 1, 2, 3

## MM3001
designator T?
NPN transistor
footprint TO-39
pins: 1, 2, 3

## MM3725
designator T?
NPN transistor
footprint TO-39
pins: 1, 2, 3

## MM4001
designator T?
PNP transistor
footprint TO-39
pins: 1, 2, 3

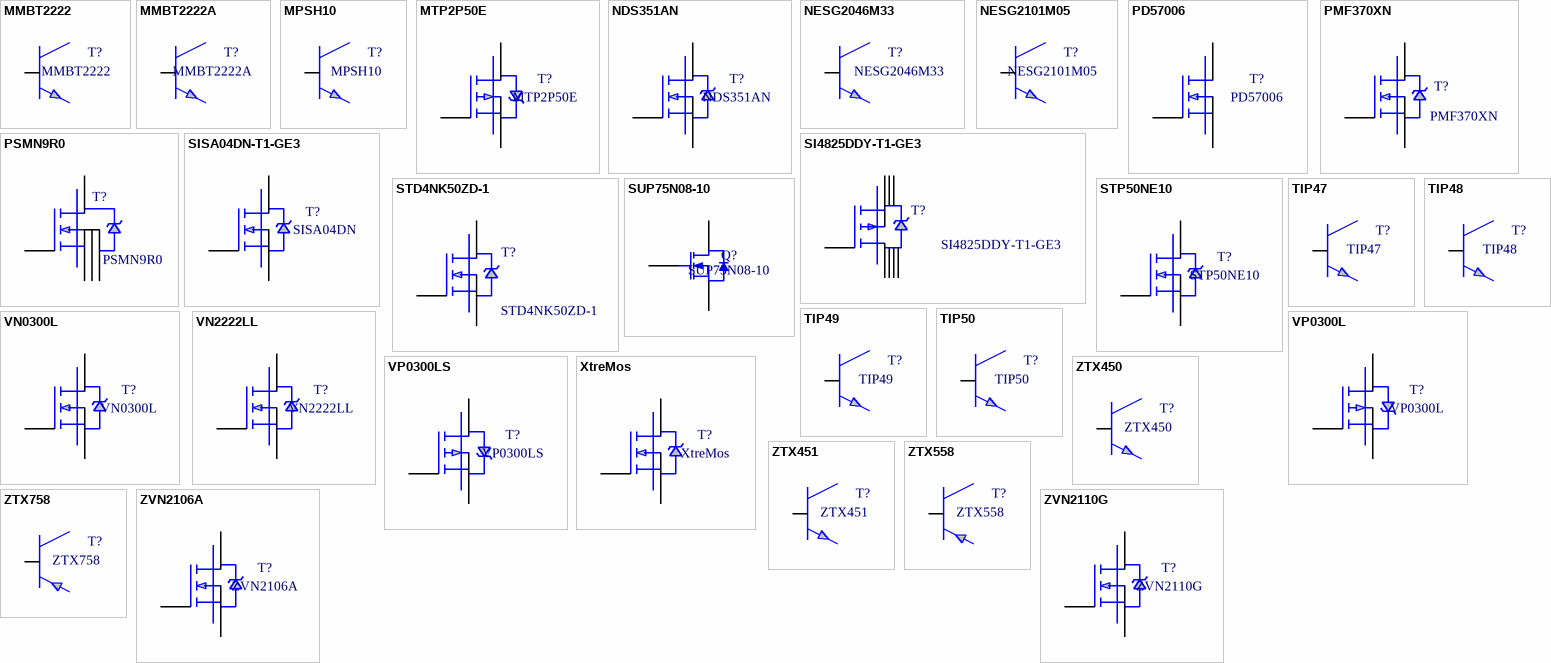
[diagram p193: symbols MMBT2222 to ZVN2110G]

## MMBT2222
designator T?
NPN transistor, smd
footprint smd SOT-23
pins: 1, 2, 3

## MMBT2222A
designator T?
NPN transistor, smd
footprint smd SOT-23
pins: 1, 2, 3

## MPSH10
designator T?
NPN transistor
footprint TO-92
pins: 1, 2, 3

## MTP2P50E
designator T?
mosfet P-kanaal
footprint TO-220 (vertikaal)
pins: 1, 2, 3

## NDS351AN
designator T?
mosfet N-kanaal
footprint smd SOT-23
pins: 1, 2, 3

## NESG2046M33
designator T?
NPN transistor
footprint smd m33
pins: 1, 2, 3

## NESG2101M05
designator T?
NPN SiGe transistor
footprint smd MO5 (C.E.L.)
pins: 1, 2, 3

## PD57006
designator T?
RF N-kanaal mosfet
footprint PowerSO-10RF/FL
pins: 1, 2, 3